# Altium integrated library Atmel Microcontroller 8-Bit megaAVR.IntLib: 324 symbols (part 1 of 10)
Pins are listed as number, name and electrical type; pins without a type are passive.

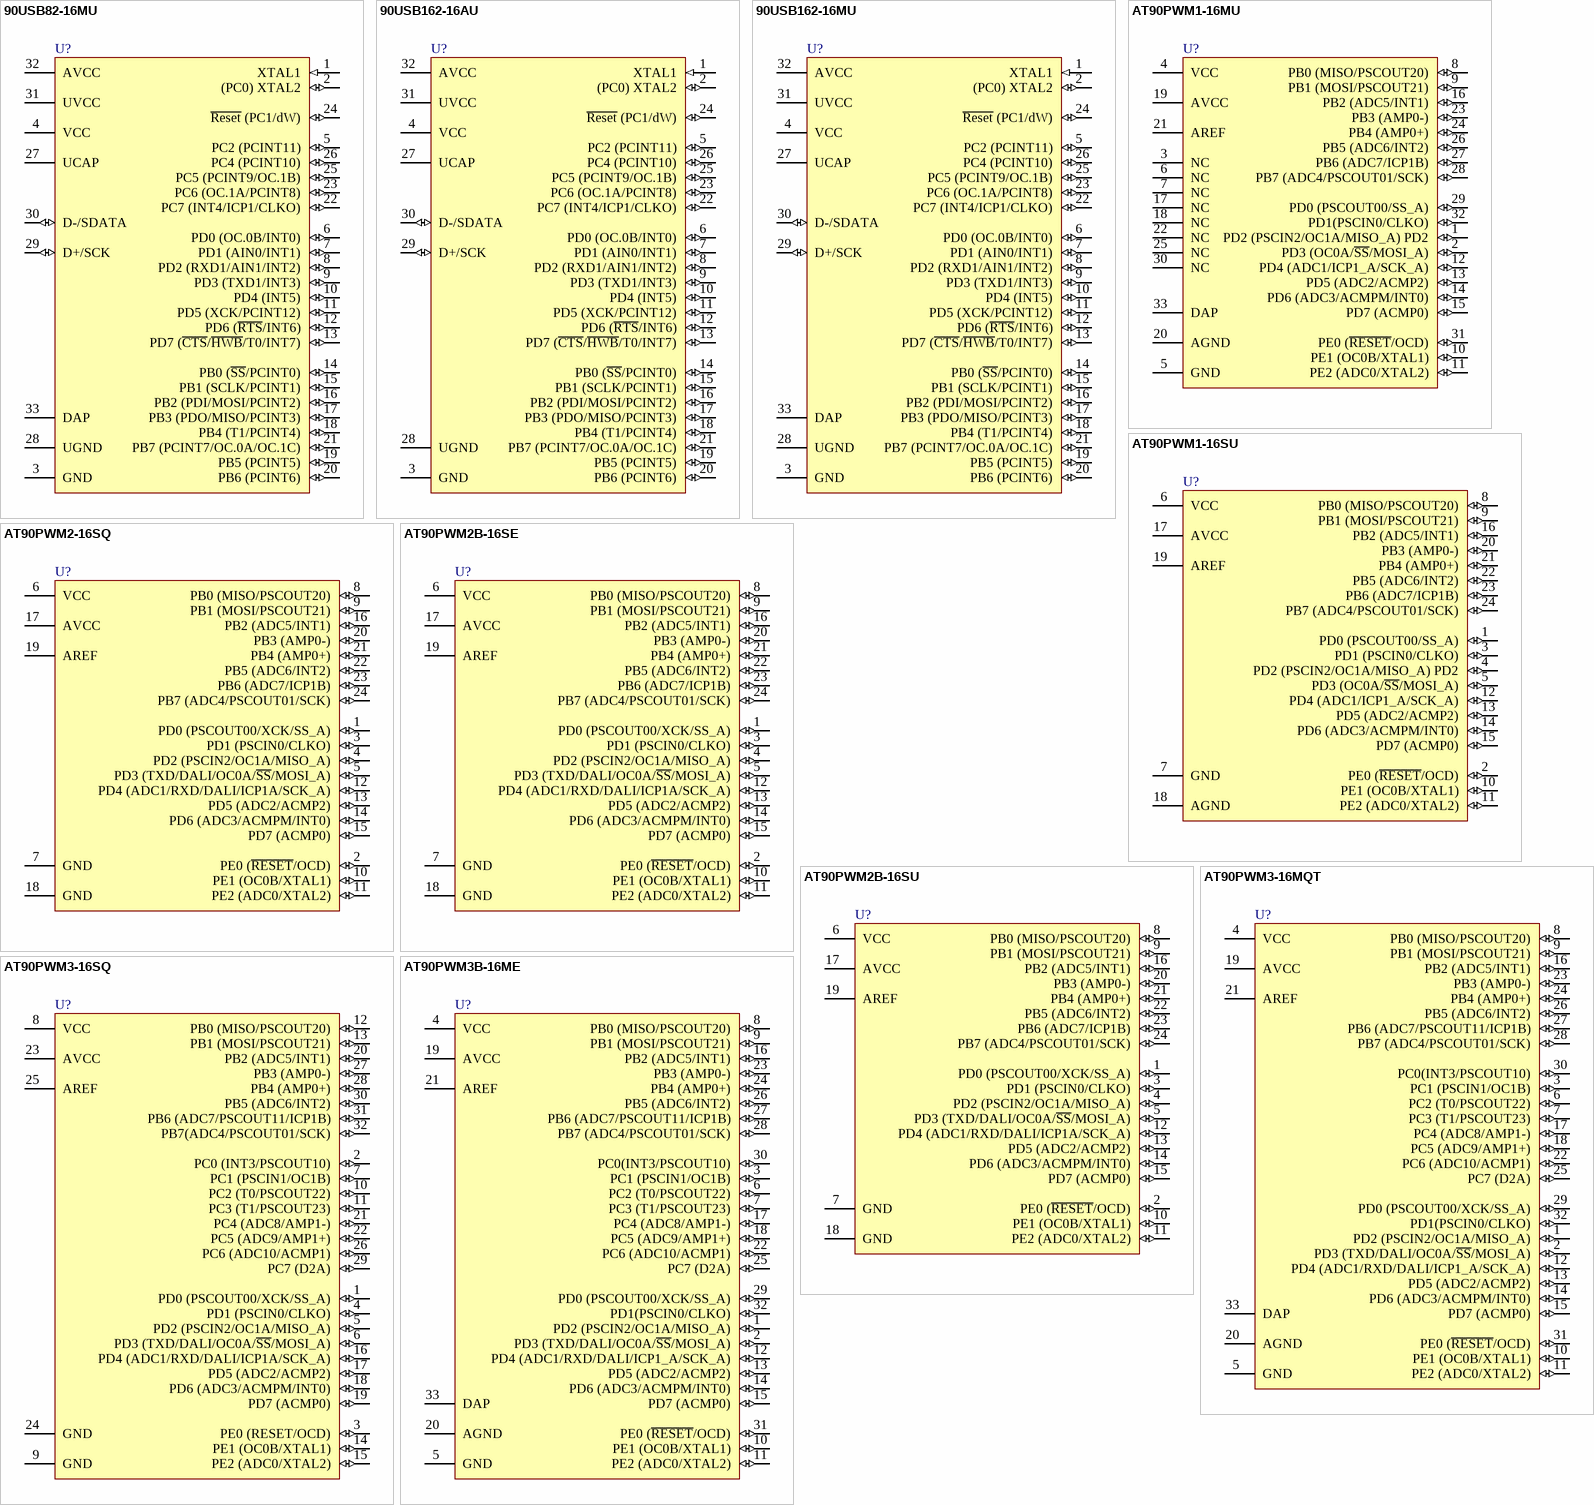
[diagram p0: symbols 90USB82-16MU to AT90PWM3B-16ME]

## 90USB82-16MU
designator U?
8-bit AVR Microcontroller, 2.7-5.5V, 8KB Flash, 512 Bytes EEPROM, 512 Bytes SRAM, USB Controller, 32-pin VQFN, Industrial Grade (-40°C to 85°C)
footprint 32-QFN_N (QFN, 32-Leads, Body 5x5mm, Pitch 0.5mm, IPC Medium Density)
footprint 32-QFN_L (QFN, 32-Leads, Body 5x5mm, Pitch 0.5mm, IPC High Density)
footprint 32-QFN_M (QFN, 32-Leads, Body 5x5mm, Pitch 0.5mm, IPC Low Density)
pins: 1 XTAL1 (in), 2 (PC0) XTAL2 (io), 3 GND (power), 4 VCC (power), 5 PC2 (PCINT11) (io), 6 PD0 (OC.0B/INT0) (io), 7 PD1 (AIN0/INT1) (io), 8 PD2 (RXD1/AIN1/INT2) (io), 9 PD3 (TXD1/INT3) (io), 10 PD4 (INT5) (io), 11 PD5 (XCK/PCINT12) (io), 12 PD6 (~{RTS}/INT6) (io), 13 PD7 (~{CTS}/~{HWB}/T0/INT7) (io), 14 PB0 (~{SS}/PCINT0) (io), 15 PB1 (SCLK/PCINT1) (io), 16 PB2 (PDI/MOSI/PCINT2) (io), 17 PB3 (PDO/MISO/PCINT3) (io), 18 PB4 (T1/PCINT4) (io), 19 PB5 (PCINT5) (io), 20 PB6 (PCINT6) (io), 21 PB7 (PCINT7/OC.0A/OC.1C) (io), 22 PC7 (INT4/ICP1/CLKO) (io), 23 PC6 (OC.1A/PCINT8) (io), 24 ~{Reset} (PC1/dW) (io), 25 PC5 (PCINT9/OC.1B) (io), 26 PC4 (PCINT10) (io), 27 UCAP (power), 28 UGND (power), 29 D+/SCK (io), 30 D-/SDATA (io), 31 UVCC (power), 32 AVCC (power), 33 DAP (power)

## 90USB162-16AU
designator U?
8-bit AVR Microcontroller, 2.7-5.5V, 16KB Flash, 512 Bytes EEPROM, 512 Bytes SRAM, USB Controller, 32-pin TQFP, Industrial Grade (-40°C to 85°C)
footprint 32MA_N (Thin QFP, 32-Leads, Body 7x7mm, Pitch 0.8mm, IPC Medium Density)
footprint 32MA_L (Thin QFP, 32-Leads, Body 7x7mm, Pitch 0.8mm, IPC High Density)
footprint 32MA_M (Thin QFP, 32-Leads, Body 7x7mm, Pitch 0.8mm, IPC Low Density)
pins: 1 XTAL1 (in), 2 (PC0) XTAL2 (io), 3 GND (power), 4 VCC (power), 5 PC2 (PCINT11) (io), 6 PD0 (OC.0B/INT0) (io), 7 PD1 (AIN0/INT1) (io), 8 PD2 (RXD1/AIN1/INT2) (io), 9 PD3 (TXD1/INT3) (io), 10 PD4 (INT5) (io), 11 PD5 (XCK/PCINT12) (io), 12 PD6 (~{RTS}/INT6) (io), 13 PD7 (~{CTS}/~{HWB}/T0/INT7) (io), 14 PB0 (~{SS}/PCINT0) (io), 15 PB1 (SCLK/PCINT1) (io), 16 PB2 (PDI/MOSI/PCINT2) (io), 17 PB3 (PDO/MISO/PCINT3) (io), 18 PB4 (T1/PCINT4) (io), 19 PB5 (PCINT5) (io), 20 PB6 (PCINT6) (io), 21 PB7 (PCINT7/OC.0A/OC.1C) (io), 22 PC7 (INT4/ICP1/CLKO) (io), 23 PC6 (OC.1A/PCINT8) (io), 24 ~{Reset} (PC1/dW) (io), 25 PC5 (PCINT9/OC.1B) (io), 26 PC4 (PCINT10) (io), 27 UCAP (power), 28 UGND (power), 29 D+/SCK (io), 30 D-/SDATA (io), 31 UVCC (power), 32 AVCC (power)

## 90USB162-16MU
designator U?
8-bit AVR Microcontroller, 2.7-5.5V, 16KB Flash, 512 Bytes EEPROM, 512 Bytes SRAM, USB Controller, 32-pin VQFN, Industrial Grade (-40°C to 85°C)
footprint 32-QFN_N (QFN, 32-Leads, Body 5x5mm, Pitch 0.5mm, IPC Medium Density)
footprint 32-QFN_L (QFN, 32-Leads, Body 5x5mm, Pitch 0.5mm, IPC High Density)
footprint 32-QFN_M (QFN, 32-Leads, Body 5x5mm, Pitch 0.5mm, IPC Low Density)
pins: 1 XTAL1 (in), 2 (PC0) XTAL2 (io), 3 GND (power), 4 VCC (power), 5 PC2 (PCINT11) (io), 6 PD0 (OC.0B/INT0) (io), 7 PD1 (AIN0/INT1) (io), 8 PD2 (RXD1/AIN1/INT2) (io), 9 PD3 (TXD1/INT3) (io), 10 PD4 (INT5) (io), 11 PD5 (XCK/PCINT12) (io), 12 PD6 (~{RTS}/INT6) (io), 13 PD7 (~{CTS}/~{HWB}/T0/INT7) (io), 14 PB0 (~{SS}/PCINT0) (io), 15 PB1 (SCLK/PCINT1) (io), 16 PB2 (PDI/MOSI/PCINT2) (io), 17 PB3 (PDO/MISO/PCINT3) (io), 18 PB4 (T1/PCINT4) (io), 19 PB5 (PCINT5) (io), 20 PB6 (PCINT6) (io), 21 PB7 (PCINT7/OC.0A/OC.1C) (io), 22 PC7 (INT4/ICP1/CLKO) (io), 23 PC6 (OC.1A/PCINT8) (io), 24 ~{Reset} (PC1/dW) (io), 25 PC5 (PCINT9/OC.1B) (io), 26 PC4 (PCINT10) (io), 27 UCAP (power), 28 UGND (power), 29 D+/SCK (io), 30 D-/SDATA (io), 31 UVCC (power), 32 AVCC (power), 33 DAP (power)

## AT90PWM1-16MU
designator U?
8-bit AVR Microcontroller, 2.7-5.5V, 8KB Flash, 512 Bytes EEPROM, 512 Bytes SRAM, 32-pin QFN, Extended Grade (-40°C to 105°C), Pb-Free
footprint QFN32_N (QFN, 32-Leads, Body 7x7 mm, Pitch 0.65mm, IPC Medium Density)
footprint QFN32_L (QFN, 32-Leads, Body 7x7 mm, Pitch 0.65mm, IPC High Density)
footprint QFN32_M (QFN, 32-Leads, Body 7x7 mm, Pitch 0.65mm, IPC Low Density)
pins: 1 PD2 (PSCIN2/OC1A/MISO_A) PD2 (io), 2 PD3 (OC0A/~{SS}/MOSI_A) (io), 3 NC, 4 VCC (power), 5 GND (power), 6 NC, 7 NC, 8 PB0 (MISO/PSCOUT20) (io), 9 PB1 (MOSI/PSCOUT21) (io), 10 PE1 (OC0B/XTAL1) (io), 11 PE2 (ADC0/XTAL2) (io), 12 PD4 (ADC1/ICP1_A/SCK_A) (io), 13 PD5 (ADC2/ACMP2) (io), 14 PD6 (ADC3/ACMPM/INT0) (io), 15 PD7 (ACMP0) (io), 16 PB2 (ADC5/INT1) (io), 17 NC, 18 NC, 19 AVCC (power), 20 AGND (power), 21 AREF (power), 22 NC, 23 PB3 (AMP0-) (io), 24 PB4 (AMP0+) (io), 25 NC, 26 PB5 (ADC6/INT2) (io), 27 PB6 (ADC7/ICP1B) (io), 28 PB7 (ADC4/PSCOUT01/SCK) (io), 29 PD0 (PSCOUT00/SS_A) (io), 30 NC, 31 PE0 (~{RESET}/OCD) (io), 32 PD1(PSCIN0/CLKO) (io), 33 DAP (power)

## AT90PWM1-16SU
designator U?
8-bit AVR Microcontroller, 2.7-5.5V, 8KB Flash, 512 Bytes EEPROM, 512 Bytes SRAM, 24-pin SOIC (TD), Extended Grade (-40°C to 105°C), Pb-Free
footprint SO24_N (SOIC, 24-Leads, Body 15.4x7.5mm, Pitch 1.27mm, IPC Medium Density)
footprint SO24_L (SOIC, 24-Leads, Body 15.4x7.5mm, Pitch 1.27mm, IPC High Density)
footprint SO24_M (SOIC, 24-Leads, Body 15.4x7.5mm, Pitch 1.27mm, IPC Low Density)
pins: 1 PD0 (PSCOUT00/SS_A) (io), 2 PE0 (~{RESET}/OCD) (io), 3 PD1 (PSCIN0/CLKO) (io), 4 PD2 (PSCIN2/OC1A/MISO_A) PD2 (io), 5 PD3 (OC0A/~{SS}/MOSI_A) (io), 6 VCC (power), 7 GND (power), 8 PB0 (MISO/PSCOUT20) (io), 9 PB1 (MOSI/PSCOUT21) (io), 10 PE1 (OC0B/XTAL1) (io), 11 PE2 (ADC0/XTAL2) (io), 12 PD4 (ADC1/ICP1_A/SCK_A) (io), 13 PD5 (ADC2/ACMP2) (io), 14 PD6 (ADC3/ACMPM/INT0) (io), 15 PD7 (ACMP0) (io), 16 PB2 (ADC5/INT1) (io), 17 AVCC (power), 18 AGND (power), 19 AREF (power), 20 PB3 (AMP0-) (io), 21 PB4 (AMP0+) (io), 22 PB5 (ADC6/INT2) (io), 23 PB6 (ADC7/ICP1B) (io), 24 PB7 (ADC4/PSCOUT01/SCK) (io)

## AT90PWM2-16SQ
designator U?
8-bit AVR Microcontroller, 8KB Flash, 512 Bytes EEPROM, 512 Bytes SRAM, 24-pin SOP, Extended Grade (-40°C to 105°C)
footprint SO24_N (SOIC, 24-Leads, Body 15.4x7.5mm, Pitch 1.27mm, IPC Medium Density)
footprint SO24_L (SOIC, 24-Leads, Body 15.4x7.5mm, Pitch 1.27mm, IPC High Density)
footprint SO24_M (SOIC, 24-Leads, Body 15.4x7.5mm, Pitch 1.27mm, IPC Low Density)
pins: 1 PD0 (PSCOUT00/XCK/SS_A) (io), 2 PE0 (~{RESET}/OCD) (io), 3 PD1 (PSCIN0/CLKO) (io), 4 PD2 (PSCIN2/OC1A/MISO_A) (io), 5 PD3 (TXD/DALI/OC0A/~{SS}/MOSI_A) (io), 6 VCC (power), 7 GND (power), 8 PB0 (MISO/PSCOUT20) (io), 9 PB1 (MOSI/PSCOUT21) (io), 10 PE1 (OC0B/XTAL1) (io), 11 PE2 (ADC0/XTAL2) (io), 12 PD4 (ADC1/RXD/DALI/ICP1A/SCK_A) (io), 13 PD5 (ADC2/ACMP2) (io), 14 PD6 (ADC3/ACMPM/INT0) (io), 15 PD7 (ACMP0) (io), 16 PB2 (ADC5/INT1) (io), 17 AVCC (power), 18 GND (power), 19 AREF (power), 20 PB3 (AMP0-) (io), 21 PB4 (AMP0+) (io), 22 PB5 (ADC6/INT2) (io), 23 PB6 (ADC7/ICP1B) (io), 24 PB7 (ADC4/PSCOUT01/SCK) (io)

## AT90PWM2B-16SE
designator U?
8-bit AVR Microcontroller, 8KB Flash, 512 Bytes EEPROM, 512 Bytes SRAM, 24-pin SOP, Engineering Sample
footprint SO24_N (SOIC, 24-Leads, Body 15.4x7.5mm, Pitch 1.27mm, IPC Medium Density)
footprint SO24_L (SOIC, 24-Leads, Body 15.4x7.5mm, Pitch 1.27mm, IPC High Density)
footprint SO24_M (SOIC, 24-Leads, Body 15.4x7.5mm, Pitch 1.27mm, IPC Low Density)
pins: 1 PD0 (PSCOUT00/XCK/SS_A) (io), 2 PE0 (~{RESET}/OCD) (io), 3 PD1 (PSCIN0/CLKO) (io), 4 PD2 (PSCIN2/OC1A/MISO_A) (io), 5 PD3 (TXD/DALI/OC0A/~{SS}/MOSI_A) (io), 6 VCC (power), 7 GND (power), 8 PB0 (MISO/PSCOUT20) (io), 9 PB1 (MOSI/PSCOUT21) (io), 10 PE1 (OC0B/XTAL1) (io), 11 PE2 (ADC0/XTAL2) (io), 12 PD4 (ADC1/RXD/DALI/ICP1A/SCK_A) (io), 13 PD5 (ADC2/ACMP2) (io), 14 PD6 (ADC3/ACMPM/INT0) (io), 15 PD7 (ACMP0) (io), 16 PB2 (ADC5/INT1) (io), 17 AVCC (power), 18 GND (power), 19 AREF (power), 20 PB3 (AMP0-) (io), 21 PB4 (AMP0+) (io), 22 PB5 (ADC6/INT2) (io), 23 PB6 (ADC7/ICP1B) (io), 24 PB7 (ADC4/PSCOUT01/SCK) (io)

## AT90PWM2B-16SU
designator U?
8-bit AVR Microcontroller, 8KB Flash, 512 Bytes EEPROM, 512 Bytes SRAM, 24-pin SOP, Extended Grade (-40°C to 105°C)
footprint SO24_N (SOIC, 24-Leads, Body 15.4x7.5mm, Pitch 1.27mm, IPC Medium Density)
footprint SO24_L (SOIC, 24-Leads, Body 15.4x7.5mm, Pitch 1.27mm, IPC High Density)
footprint SO24_M (SOIC, 24-Leads, Body 15.4x7.5mm, Pitch 1.27mm, IPC Low Density)
pins: 1 PD0 (PSCOUT00/XCK/SS_A) (io), 2 PE0 (~{RESET}/OCD) (io), 3 PD1 (PSCIN0/CLKO) (io), 4 PD2 (PSCIN2/OC1A/MISO_A) (io), 5 PD3 (TXD/DALI/OC0A/~{SS}/MOSI_A) (io), 6 VCC (power), 7 GND (power), 8 PB0 (MISO/PSCOUT20) (io), 9 PB1 (MOSI/PSCOUT21) (io), 10 PE1 (OC0B/XTAL1) (io), 11 PE2 (ADC0/XTAL2) (io), 12 PD4 (ADC1/RXD/DALI/ICP1A/SCK_A) (io), 13 PD5 (ADC2/ACMP2) (io), 14 PD6 (ADC3/ACMPM/INT0) (io), 15 PD7 (ACMP0) (io), 16 PB2 (ADC5/INT1) (io), 17 AVCC (power), 18 GND (power), 19 AREF (power), 20 PB3 (AMP0-) (io), 21 PB4 (AMP0+) (io), 22 PB5 (ADC6/INT2) (io), 23 PB6 (ADC7/ICP1B) (io), 24 PB7 (ADC4/PSCOUT01/SCK) (io)

## AT90PWM3-16MQT
designator U?
8-bit AVR Microcontroller, 8KB Flash, 512 Bytes EEPROM, 512 Bytes SRAM, 32-pin QFN, Extended Grade (-40°C to 105°C)
footprint QFN32_N (QFN, 32-Leads, Body 7x7 mm, Pitch 0.65mm, IPC Medium Density)
footprint QFN32_L (QFN, 32-Leads, Body 7x7 mm, Pitch 0.65mm, IPC High Density)
footprint QFN32_M (QFN, 32-Leads, Body 7x7 mm, Pitch 0.65mm, IPC Low Density)
pins: 1 PD2 (PSCIN2/OC1A/MISO_A) (io), 2 PD3 (TXD/DALI/OC0A/~{SS}/MOSI_A) (io), 3 PC1 (PSCIN1/OC1B) (io), 4 VCC (power), 5 GND (power), 6 PC2 (T0/PSCOUT22) (io), 7 PC3 (T1/PSCOUT23) (io), 8 PB0 (MISO/PSCOUT20) (io), 9 PB1 (MOSI/PSCOUT21) (io), 10 PE1 (OC0B/XTAL1) (io), 11 PE2 (ADC0/XTAL2) (io), 12 PD4 (ADC1/RXD/DALI/ICP1_A/SCK_A) (io), 13 PD5 (ADC2/ACMP2) (io), 14 PD6 (ADC3/ACMPM/INT0) (io), 15 PD7 (ACMP0) (io), 16 PB2 (ADC5/INT1) (io), 17 PC4 (ADC8/AMP1-) (io), 18 PC5 (ADC9/AMP1+) (io), 19 AVCC (power), 20 AGND (power), 21 AREF (power), 22 PC6 (ADC10/ACMP1) (io), 23 PB3 (AMP0-) (io), 24 PB4 (AMP0+) (io), 25 PC7 (D2A) (io), 26 PB5 (ADC6/INT2) (io), 27 PB6 (ADC7/PSCOUT11/ICP1B) (io), 28 PB7 (ADC4/PSCOUT01/SCK) (io), 29 PD0 (PSCOUT00/XCK/SS_A) (io), 30 PC0(INT3/PSCOUT10) (io), 31 PE0 (~{RESET}/OCD) (io), 32 PD1(PSCIN0/CLKO) (io), 33 DAP (power)

## AT90PWM3-16SQ
designator U?
8-bit AVR Microcontroller, 8KB Flash, 512 Bytes EEPROM, 512 Bytes SRAM, 32-pin SOP, Extended Grade (-40°C to 105°C)
footprint SO32_N (SOIC, 32-Leads, Body 20.8x7.5mm, Pitch 1.27mm, IPC Medium Density)
footprint SO32_L (SOIC, 32-Leads, Body 20.8x7.5mm, Pitch 1.27mm, IPC High Density)
footprint SO32_M (SOIC, 32-Leads, Body 20.8x7.5mm, Pitch 1.27mm, IPC Low Density)
pins: 1 PD0 (PSCOUT00/XCK/SS_A) (io), 2 PC0 (INT3/PSCOUT10) (io), 3 PE0 (RESET/OCD) (io), 4 PD1 (PSCIN0/CLKO) (io), 5 PD2 (PSCIN2/OC1A/MISO_A) (io), 6 PD3 (TXD/DALI/OC0A/~{SS}/MOSI_A) (io), 7 PC1 (PSCIN1/OC1B) (io), 8 VCC (power), 9 GND (power), 10 PC2 (T0/PSCOUT22) (io), 11 PC3 (T1/PSCOUT23) (io), 12 PB0 (MISO/PSCOUT20) (io), 13 PB1 (MOSI/PSCOUT21) (io), 14 PE1 (OC0B/XTAL1) (io), 15 PE2 (ADC0/XTAL2) (io), 16 PD4 (ADC1/RXD/DALI/ICP1A/SCK_A) (io), 17 PD5 (ADC2/ACMP2) (io), 18 PD6 (ADC3/ACMPM/INT0) (io), 19 PD7 (ACMP0) (io), 20 PB2 (ADC5/INT1) (io), 21 PC4 (ADC8/AMP1-) (io), 22 PC5 (ADC9/AMP1+) (io), 23 AVCC (power), 24 GND (power), 25 AREF (power), 26 PC6 (ADC10/ACMP1) (io), 27 PB3 (AMP0-) (io), 28 PB4 (AMP0+) (io), 29 PC7 (D2A) (io), 30 PB5 (ADC6/INT2) (io), 31 PB6 (ADC7/PSCOUT11/ICP1B) (io), 32 PB7(ADC4/PSCOUT01/SCK) (io)

## AT90PWM3B-16ME
designator U?
8-bit AVR Microcontroller, 8KB Flash, 512 Bytes EEPROM, 512 Bytes SRAM, 32-pin QFN, Engineering Sample
footprint QFN32_N (QFN, 32-Leads, Body 7x7 mm, Pitch 0.65mm, IPC Medium Density)
footprint QFN32_L (QFN, 32-Leads, Body 7x7 mm, Pitch 0.65mm, IPC High Density)
footprint QFN32_M (QFN, 32-Leads, Body 7x7 mm, Pitch 0.65mm, IPC Low Density)
pins: 1 PD2 (PSCIN2/OC1A/MISO_A) (io), 2 PD3 (TXD/DALI/OC0A/~{SS}/MOSI_A) (io), 3 PC1 (PSCIN1/OC1B) (io), 4 VCC (power), 5 GND (power), 6 PC2 (T0/PSCOUT22) (io), 7 PC3 (T1/PSCOUT23) (io), 8 PB0 (MISO/PSCOUT20) (io), 9 PB1 (MOSI/PSCOUT21) (io), 10 PE1 (OC0B/XTAL1) (io), 11 PE2 (ADC0/XTAL2) (io), 12 PD4 (ADC1/RXD/DALI/ICP1_A/SCK_A) (io), 13 PD5 (ADC2/ACMP2) (io), 14 PD6 (ADC3/ACMPM/INT0) (io), 15 PD7 (ACMP0) (io), 16 PB2 (ADC5/INT1) (io), 17 PC4 (ADC8/AMP1-) (io), 18 PC5 (ADC9/AMP1+) (io), 19 AVCC (power), 20 AGND (power), 21 AREF (power), 22 PC6 (ADC10/ACMP1) (io), 23 PB3 (AMP0-) (io), 24 PB4 (AMP0+) (io), 25 PC7 (D2A) (io), 26 PB5 (ADC6/INT2) (io), 27 PB6 (ADC7/PSCOUT11/ICP1B) (io), 28 PB7 (ADC4/PSCOUT01/SCK) (io), 29 PD0 (PSCOUT00/XCK/SS_A) (io), 30 PC0(INT3/PSCOUT10) (io), 31 PE0 (~{RESET}/OCD) (io), 32 PD1(PSCIN0/CLKO) (io), 33 DAP (power)

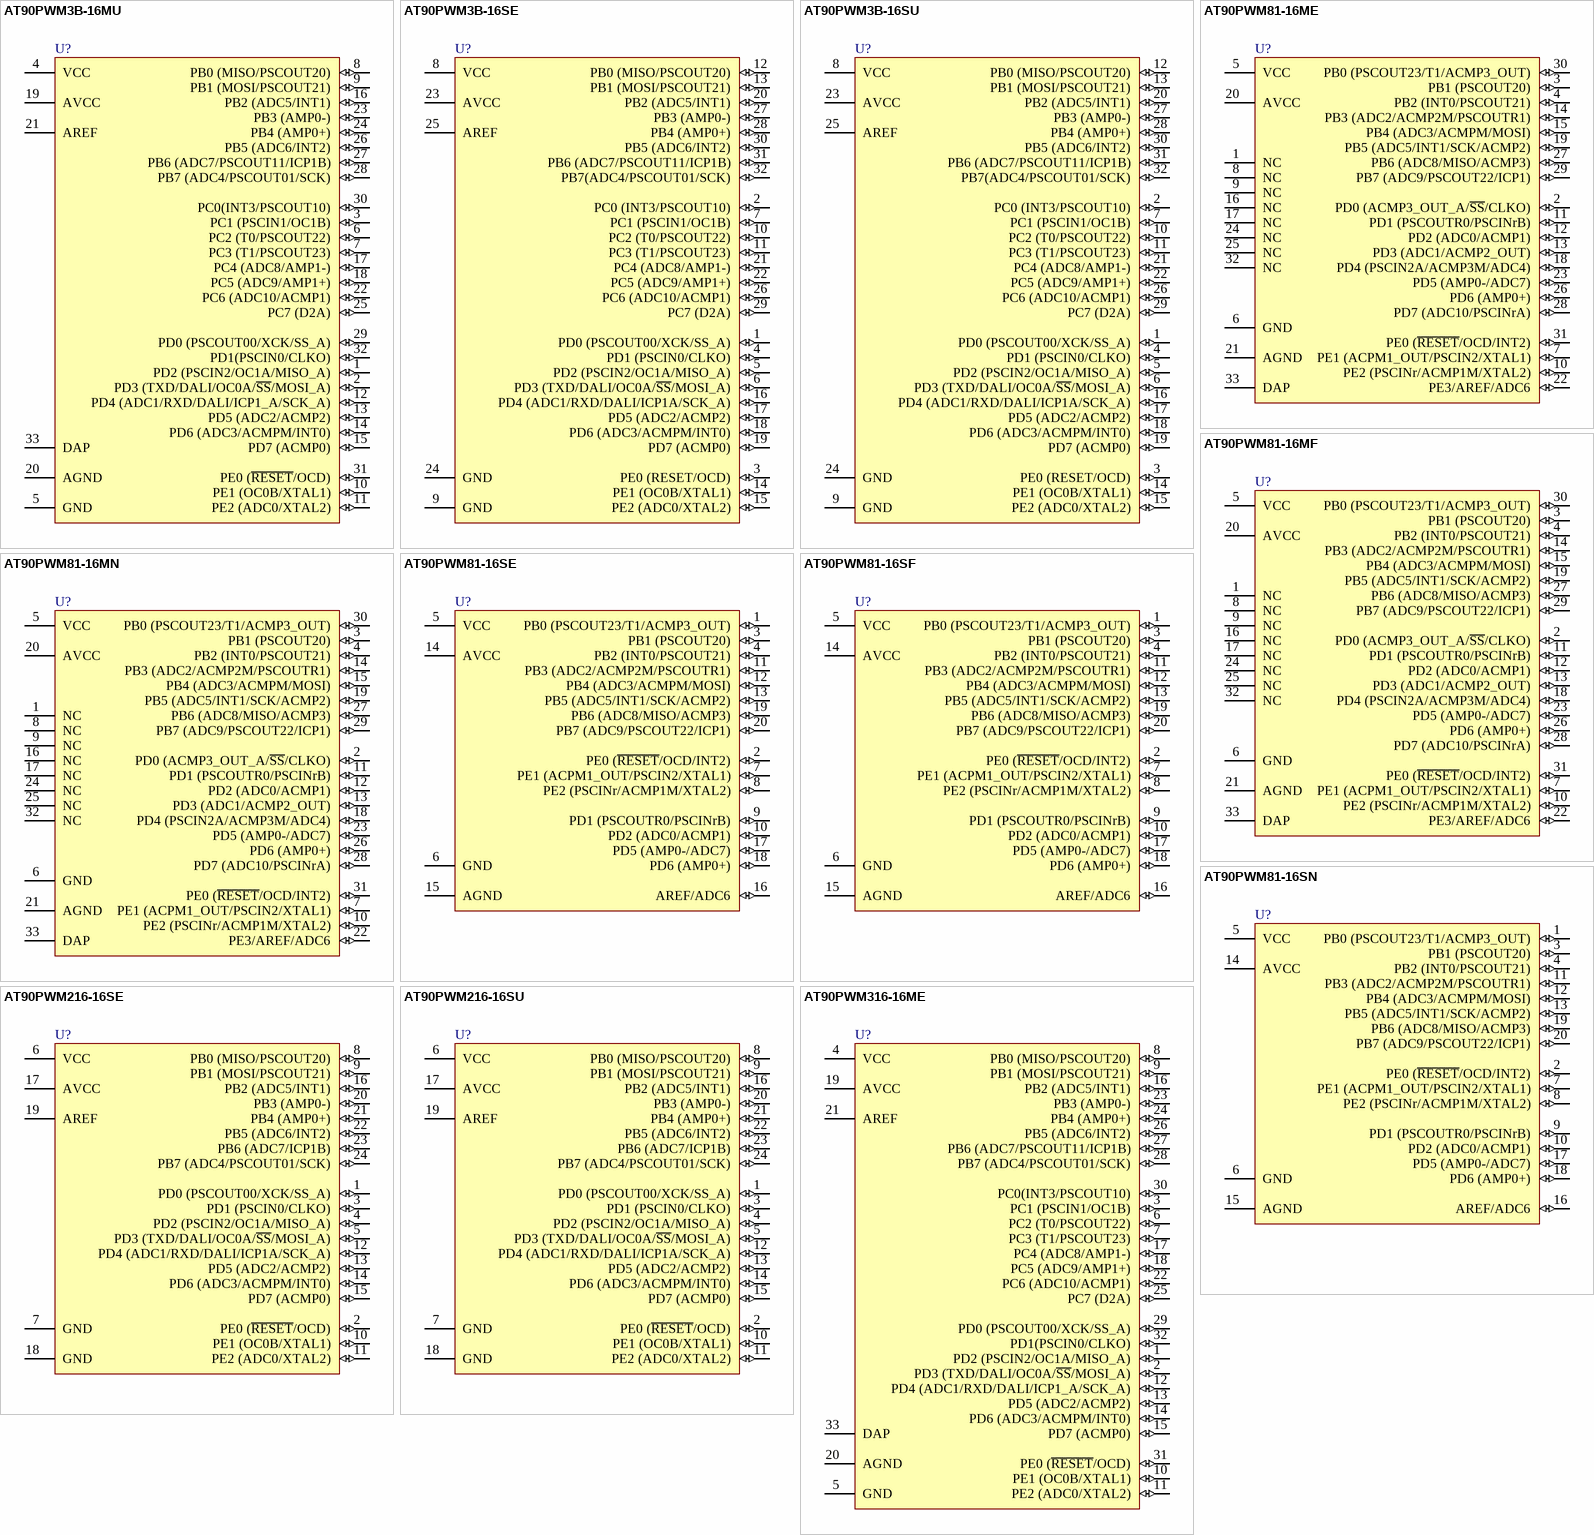
[diagram p1: symbols AT90PWM3B-16MU to AT90PWM316-16ME]

## AT90PWM3B-16MU
designator U?
8-bit AVR Microcontroller, 8KB Flash, 512 Bytes EEPROM, 512 Bytes SRAM, 32-pin QFN, Extended Grade (-40°C to 105°C)
footprint QFN32_N (QFN, 32-Leads, Body 7x7 mm, Pitch 0.65mm, IPC Medium Density)
footprint QFN32_L (QFN, 32-Leads, Body 7x7 mm, Pitch 0.65mm, IPC High Density)
footprint QFN32_M (QFN, 32-Leads, Body 7x7 mm, Pitch 0.65mm, IPC Low Density)
pins: 1 PD2 (PSCIN2/OC1A/MISO_A) (io), 2 PD3 (TXD/DALI/OC0A/~{SS}/MOSI_A) (io), 3 PC1 (PSCIN1/OC1B) (io), 4 VCC (power), 5 GND (power), 6 PC2 (T0/PSCOUT22) (io), 7 PC3 (T1/PSCOUT23) (io), 8 PB0 (MISO/PSCOUT20) (io), 9 PB1 (MOSI/PSCOUT21) (io), 10 PE1 (OC0B/XTAL1) (io), 11 PE2 (ADC0/XTAL2) (io), 12 PD4 (ADC1/RXD/DALI/ICP1_A/SCK_A) (io), 13 PD5 (ADC2/ACMP2) (io), 14 PD6 (ADC3/ACMPM/INT0) (io), 15 PD7 (ACMP0) (io), 16 PB2 (ADC5/INT1) (io), 17 PC4 (ADC8/AMP1-) (io), 18 PC5 (ADC9/AMP1+) (io), 19 AVCC (power), 20 AGND (power), 21 AREF (power), 22 PC6 (ADC10/ACMP1) (io), 23 PB3 (AMP0-) (io), 24 PB4 (AMP0+) (io), 25 PC7 (D2A) (io), 26 PB5 (ADC6/INT2) (io), 27 PB6 (ADC7/PSCOUT11/ICP1B) (io), 28 PB7 (ADC4/PSCOUT01/SCK) (io), 29 PD0 (PSCOUT00/XCK/SS_A) (io), 30 PC0(INT3/PSCOUT10) (io), 31 PE0 (~{RESET}/OCD) (io), 32 PD1(PSCIN0/CLKO) (io), 33 DAP (power)

## AT90PWM3B-16SE
designator U?
8-bit AVR Microcontroller, 8KB Flash, 512 Bytes EEPROM, 512 Bytes SRAM, 32-pin SOP, Engineering Sample
footprint SO32_N (SOIC, 32-Leads, Body 20.8x7.5mm, Pitch 1.27mm, IPC Medium Density)
footprint SO32_L (SOIC, 32-Leads, Body 20.8x7.5mm, Pitch 1.27mm, IPC High Density)
footprint SO32_M (SOIC, 32-Leads, Body 20.8x7.5mm, Pitch 1.27mm, IPC Low Density)
pins: 1 PD0 (PSCOUT00/XCK/SS_A) (io), 2 PC0 (INT3/PSCOUT10) (io), 3 PE0 (RESET/OCD) (io), 4 PD1 (PSCIN0/CLKO) (io), 5 PD2 (PSCIN2/OC1A/MISO_A) (io), 6 PD3 (TXD/DALI/OC0A/~{SS}/MOSI_A) (io), 7 PC1 (PSCIN1/OC1B) (io), 8 VCC (power), 9 GND (power), 10 PC2 (T0/PSCOUT22) (io), 11 PC3 (T1/PSCOUT23) (io), 12 PB0 (MISO/PSCOUT20) (io), 13 PB1 (MOSI/PSCOUT21) (io), 14 PE1 (OC0B/XTAL1) (io), 15 PE2 (ADC0/XTAL2) (io), 16 PD4 (ADC1/RXD/DALI/ICP1A/SCK_A) (io), 17 PD5 (ADC2/ACMP2) (io), 18 PD6 (ADC3/ACMPM/INT0) (io), 19 PD7 (ACMP0) (io), 20 PB2 (ADC5/INT1) (io), 21 PC4 (ADC8/AMP1-) (io), 22 PC5 (ADC9/AMP1+) (io), 23 AVCC (power), 24 GND (power), 25 AREF (power), 26 PC6 (ADC10/ACMP1) (io), 27 PB3 (AMP0-) (io), 28 PB4 (AMP0+) (io), 29 PC7 (D2A) (io), 30 PB5 (ADC6/INT2) (io), 31 PB6 (ADC7/PSCOUT11/ICP1B) (io), 32 PB7(ADC4/PSCOUT01/SCK) (io)

## AT90PWM3B-16SU
designator U?
8-bit AVR Microcontroller, 8KB Flash, 512 Bytes EEPROM, 512 Bytes SRAM, 32-pin SOP, Extended Grade (-40°C to 105°C)
footprint SO32_N (SOIC, 32-Leads, Body 20.8x7.5mm, Pitch 1.27mm, IPC Medium Density)
footprint SO32_L (SOIC, 32-Leads, Body 20.8x7.5mm, Pitch 1.27mm, IPC High Density)
footprint SO32_M (SOIC, 32-Leads, Body 20.8x7.5mm, Pitch 1.27mm, IPC Low Density)
pins: 1 PD0 (PSCOUT00/XCK/SS_A) (io), 2 PC0 (INT3/PSCOUT10) (io), 3 PE0 (RESET/OCD) (io), 4 PD1 (PSCIN0/CLKO) (io), 5 PD2 (PSCIN2/OC1A/MISO_A) (io), 6 PD3 (TXD/DALI/OC0A/~{SS}/MOSI_A) (io), 7 PC1 (PSCIN1/OC1B) (io), 8 VCC (power), 9 GND (power), 10 PC2 (T0/PSCOUT22) (io), 11 PC3 (T1/PSCOUT23) (io), 12 PB0 (MISO/PSCOUT20) (io), 13 PB1 (MOSI/PSCOUT21) (io), 14 PE1 (OC0B/XTAL1) (io), 15 PE2 (ADC0/XTAL2) (io), 16 PD4 (ADC1/RXD/DALI/ICP1A/SCK_A) (io), 17 PD5 (ADC2/ACMP2) (io), 18 PD6 (ADC3/ACMPM/INT0) (io), 19 PD7 (ACMP0) (io), 20 PB2 (ADC5/INT1) (io), 21 PC4 (ADC8/AMP1-) (io), 22 PC5 (ADC9/AMP1+) (io), 23 AVCC (power), 24 GND (power), 25 AREF (power), 26 PC6 (ADC10/ACMP1) (io), 27 PB3 (AMP0-) (io), 28 PB4 (AMP0+) (io), 29 PC7 (D2A) (io), 30 PB5 (ADC6/INT2) (io), 31 PB6 (ADC7/PSCOUT11/ICP1B) (io), 32 PB7(ADC4/PSCOUT01/SCK) (io)

## AT90PWM81-16ME
designator U?
8-bit AVR Microcontroller, 2.7-5.5V, 8KB Flash, 512 Bytes EEPROM, 256 Bytes SRAM, 32-pin QFN, Engineering Sample, Pb-Free
footprint 32-QFN_N (QFN, 32-Leads, Body 5x5mm, Pitch 0.5mm, IPC Medium Density)
footprint 32-QFN_L (QFN, 32-Leads, Body 5x5mm, Pitch 0.5mm, IPC High Density)
footprint 32-QFN_M (QFN, 32-Leads, Body 5x5mm, Pitch 0.5mm, IPC Low Density)
pins: 1 NC, 2 PD0 (ACMP3_OUT_A/~{SS}/CLKO) (io), 3 PB1 (PSCOUT20) (io), 4 PB2 (INT0/PSCOUT21) (io), 5 VCC (power), 6 GND (power), 7 PE1 (ACPM1_OUT/PSCIN2/XTAL1) (io), 8 NC, 9 NC, 10 PE2 (PSCINr/ACMP1M/XTAL2) (io), 11 PD1 (PSCOUTR0/PSCINrB) (io), 12 PD2 (ADC0/ACMP1) (io), 13 PD3 (ADC1/ACMP2_OUT) (io), 14 PB3 (ADC2/ACMP2M/PSCOUTR1) (io), 15 PB4 (ADC3/ACMPM/MOSI) (io), 16 NC, 17 NC, 18 PD4 (PSCIN2A/ACMP3M/ADC4) (io), 19 PB5 (ADC5/INT1/SCK/ACMP2) (io), 20 AVCC (power), 21 AGND (power), 22 PE3/AREF/ADC6 (io), 23 PD5 (AMP0-/ADC7) (io), 24 NC, 25 NC, 26 PD6 (AMP0+) (io), 27 PB6 (ADC8/MISO/ACMP3) (io), 28 PD7 (ADC10/PSCINrA) (io), 29 PB7 (ADC9/PSCOUT22/ICP1) (io), 30 PB0 (PSCOUT23/T1/ACMP3_OUT) (io), 31 PE0 (~{RESET}/OCD/INT2) (io), 32 NC, 33 DAP (power)

## AT90PWM81-16MF
designator U?
8-bit AVR Microcontroller, 2.7-5.5V, 8KB Flash, 512 Bytes EEPROM, 256 Bytes SRAM, 32-pin QFN, Extended Grade (-40°C to 125°C), Pb-Free
footprint 32-QFN_N (QFN, 32-Leads, Body 5x5mm, Pitch 0.5mm, IPC Medium Density)
footprint 32-QFN_L (QFN, 32-Leads, Body 5x5mm, Pitch 0.5mm, IPC High Density)
footprint 32-QFN_M (QFN, 32-Leads, Body 5x5mm, Pitch 0.5mm, IPC Low Density)
pins: 1 NC, 2 PD0 (ACMP3_OUT_A/~{SS}/CLKO) (io), 3 PB1 (PSCOUT20) (io), 4 PB2 (INT0/PSCOUT21) (io), 5 VCC (power), 6 GND (power), 7 PE1 (ACPM1_OUT/PSCIN2/XTAL1) (io), 8 NC, 9 NC, 10 PE2 (PSCINr/ACMP1M/XTAL2) (io), 11 PD1 (PSCOUTR0/PSCINrB) (io), 12 PD2 (ADC0/ACMP1) (io), 13 PD3 (ADC1/ACMP2_OUT) (io), 14 PB3 (ADC2/ACMP2M/PSCOUTR1) (io), 15 PB4 (ADC3/ACMPM/MOSI) (io), 16 NC, 17 NC, 18 PD4 (PSCIN2A/ACMP3M/ADC4) (io), 19 PB5 (ADC5/INT1/SCK/ACMP2) (io), 20 AVCC (power), 21 AGND (power), 22 PE3/AREF/ADC6 (io), 23 PD5 (AMP0-/ADC7) (io), 24 NC, 25 NC, 26 PD6 (AMP0+) (io), 27 PB6 (ADC8/MISO/ACMP3) (io), 28 PD7 (ADC10/PSCINrA) (io), 29 PB7 (ADC9/PSCOUT22/ICP1) (io), 30 PB0 (PSCOUT23/T1/ACMP3_OUT) (io), 31 PE0 (~{RESET}/OCD/INT2) (io), 32 NC, 33 DAP (power)

## AT90PWM81-16MN
designator U?
8-bit AVR Microcontroller, 2.7-5.5V, 8KB Flash, 512 Bytes EEPROM, 256 Bytes SRAM, 32-pin QFN, Extended Grade (-40°C to 105°C), Pb-Free
footprint 32-QFN_N (QFN, 32-Leads, Body 5x5mm, Pitch 0.5mm, IPC Medium Density)
footprint 32-QFN_L (QFN, 32-Leads, Body 5x5mm, Pitch 0.5mm, IPC High Density)
footprint 32-QFN_M (QFN, 32-Leads, Body 5x5mm, Pitch 0.5mm, IPC Low Density)
pins: 1 NC, 2 PD0 (ACMP3_OUT_A/~{SS}/CLKO) (io), 3 PB1 (PSCOUT20) (io), 4 PB2 (INT0/PSCOUT21) (io), 5 VCC (power), 6 GND (power), 7 PE1 (ACPM1_OUT/PSCIN2/XTAL1) (io), 8 NC, 9 NC, 10 PE2 (PSCINr/ACMP1M/XTAL2) (io), 11 PD1 (PSCOUTR0/PSCINrB) (io), 12 PD2 (ADC0/ACMP1) (io), 13 PD3 (ADC1/ACMP2_OUT) (io), 14 PB3 (ADC2/ACMP2M/PSCOUTR1) (io), 15 PB4 (ADC3/ACMPM/MOSI) (io), 16 NC, 17 NC, 18 PD4 (PSCIN2A/ACMP3M/ADC4) (io), 19 PB5 (ADC5/INT1/SCK/ACMP2) (io), 20 AVCC (power), 21 AGND (power), 22 PE3/AREF/ADC6 (io), 23 PD5 (AMP0-/ADC7) (io), 24 NC, 25 NC, 26 PD6 (AMP0+) (io), 27 PB6 (ADC8/MISO/ACMP3) (io), 28 PD7 (ADC10/PSCINrA) (io), 29 PB7 (ADC9/PSCOUT22/ICP1) (io), 30 PB0 (PSCOUT23/T1/ACMP3_OUT) (io), 31 PE0 (~{RESET}/OCD/INT2) (io), 32 NC, 33 DAP (power)

## AT90PWM81-16SE
designator U?
8-bit AVR Microcontroller, 2.7-5.5V, 8KB Flash, 512 Bytes EEPROM, 256 Bytes SRAM, 20-pin SOIC (TG), Engineering Sample, Pb-Free
footprint 20TG_N (SOIC, 20-Leads, Body 12.8x7.5mm, Pitch 1.27mm, IPC Medium Density)
footprint 20TG_L (SOIC, 20-Leads, Body 12.8x7.5mm, Pitch 1.27mm, IPC High Density)
footprint 20TG_M (SOIC, 20-Leads, Body 12.8x7.5mm, Pitch 1.27mm, IPC Low Density)
pins: 1 PB0 (PSCOUT23/T1/ACMP3_OUT) (io), 2 PE0 (~{RESET}/OCD/INT2) (io), 3 PB1 (PSCOUT20) (io), 4 PB2 (INT0/PSCOUT21) (io), 5 VCC (power), 6 GND (power), 7 PE1 (ACPM1_OUT/PSCIN2/XTAL1) (io), 8 PE2 (PSCINr/ACMP1M/XTAL2) (io), 9 PD1 (PSCOUTR0/PSCINrB) (io), 10 PD2 (ADC0/ACMP1) (io), 11 PB3 (ADC2/ACMP2M/PSCOUTR1) (io), 12 PB4 (ADC3/ACMPM/MOSI) (io), 13 PB5 (ADC5/INT1/SCK/ACMP2) (io), 14 AVCC (power), 15 AGND (power), 16 AREF/ADC6 (io), 17 PD5 (AMP0-/ADC7) (io), 18 PD6 (AMP0+) (io), 19 PB6 (ADC8/MISO/ACMP3) (io), 20 PB7 (ADC9/PSCOUT22/ICP1) (io)

## AT90PWM81-16SF
designator U?
8-bit AVR Microcontroller, 2.7-5.5V, 8KB Flash, 512 Bytes EEPROM, 256 Bytes SRAM, 20-pin SOIC (TG), Extended Grade (-40°C to 125°C), Pb-Free
footprint 20TG_N (SOIC, 20-Leads, Body 12.8x7.5mm, Pitch 1.27mm, IPC Medium Density)
footprint 20TG_L (SOIC, 20-Leads, Body 12.8x7.5mm, Pitch 1.27mm, IPC High Density)
footprint 20TG_M (SOIC, 20-Leads, Body 12.8x7.5mm, Pitch 1.27mm, IPC Low Density)
pins: 1 PB0 (PSCOUT23/T1/ACMP3_OUT) (io), 2 PE0 (~{RESET}/OCD/INT2) (io), 3 PB1 (PSCOUT20) (io), 4 PB2 (INT0/PSCOUT21) (io), 5 VCC (power), 6 GND (power), 7 PE1 (ACPM1_OUT/PSCIN2/XTAL1) (io), 8 PE2 (PSCINr/ACMP1M/XTAL2) (io), 9 PD1 (PSCOUTR0/PSCINrB) (io), 10 PD2 (ADC0/ACMP1) (io), 11 PB3 (ADC2/ACMP2M/PSCOUTR1) (io), 12 PB4 (ADC3/ACMPM/MOSI) (io), 13 PB5 (ADC5/INT1/SCK/ACMP2) (io), 14 AVCC (power), 15 AGND (power), 16 AREF/ADC6 (io), 17 PD5 (AMP0-/ADC7) (io), 18 PD6 (AMP0+) (io), 19 PB6 (ADC8/MISO/ACMP3) (io), 20 PB7 (ADC9/PSCOUT22/ICP1) (io)

## AT90PWM81-16SN
designator U?
8-bit AVR Microcontroller, 2.7-5.5V, 8KB Flash, 512 Bytes EEPROM, 256 Bytes SRAM, 20-pin SOIC (TG), Extended Grade (-40°C to 105°C), Pb-Free
footprint 20TG_N (SOIC, 20-Leads, Body 12.8x7.5mm, Pitch 1.27mm, IPC Medium Density)
footprint 20TG_L (SOIC, 20-Leads, Body 12.8x7.5mm, Pitch 1.27mm, IPC High Density)
footprint 20TG_M (SOIC, 20-Leads, Body 12.8x7.5mm, Pitch 1.27mm, IPC Low Density)
pins: 1 PB0 (PSCOUT23/T1/ACMP3_OUT) (io), 2 PE0 (~{RESET}/OCD/INT2) (io), 3 PB1 (PSCOUT20) (io), 4 PB2 (INT0/PSCOUT21) (io), 5 VCC (power), 6 GND (power), 7 PE1 (ACPM1_OUT/PSCIN2/XTAL1) (io), 8 PE2 (PSCINr/ACMP1M/XTAL2) (io), 9 PD1 (PSCOUTR0/PSCINrB) (io), 10 PD2 (ADC0/ACMP1) (io), 11 PB3 (ADC2/ACMP2M/PSCOUTR1) (io), 12 PB4 (ADC3/ACMPM/MOSI) (io), 13 PB5 (ADC5/INT1/SCK/ACMP2) (io), 14 AVCC (power), 15 AGND (power), 16 AREF/ADC6 (io), 17 PD5 (AMP0-/ADC7) (io), 18 PD6 (AMP0+) (io), 19 PB6 (ADC8/MISO/ACMP3) (io), 20 PB7 (ADC9/PSCOUT22/ICP1) (io)

## AT90PWM216-16SE
designator U?
8-bit AVR Microcontroller, 2.7-5.5V, 16KB Flash, 512 Bytes EEPROM, 1KB SRAM, 24-pin SOIC (TD), Engineering Sample, Pb-Free
footprint SO24_N (SOIC, 24-Leads, Body 15.4x7.5mm, Pitch 1.27mm, IPC Medium Density)
footprint SO24_L (SOIC, 24-Leads, Body 15.4x7.5mm, Pitch 1.27mm, IPC High Density)
footprint SO24_M (SOIC, 24-Leads, Body 15.4x7.5mm, Pitch 1.27mm, IPC Low Density)
pins: 1 PD0 (PSCOUT00/XCK/SS_A) (io), 2 PE0 (~{RESET}/OCD) (io), 3 PD1 (PSCIN0/CLKO) (io), 4 PD2 (PSCIN2/OC1A/MISO_A) (io), 5 PD3 (TXD/DALI/OC0A/~{SS}/MOSI_A) (io), 6 VCC (power), 7 GND (power), 8 PB0 (MISO/PSCOUT20) (io), 9 PB1 (MOSI/PSCOUT21) (io), 10 PE1 (OC0B/XTAL1) (io), 11 PE2 (ADC0/XTAL2) (io), 12 PD4 (ADC1/RXD/DALI/ICP1A/SCK_A) (io), 13 PD5 (ADC2/ACMP2) (io), 14 PD6 (ADC3/ACMPM/INT0) (io), 15 PD7 (ACMP0) (io), 16 PB2 (ADC5/INT1) (io), 17 AVCC (power), 18 GND (power), 19 AREF (power), 20 PB3 (AMP0-) (io), 21 PB4 (AMP0+) (io), 22 PB5 (ADC6/INT2) (io), 23 PB6 (ADC7/ICP1B) (io), 24 PB7 (ADC4/PSCOUT01/SCK) (io)

## AT90PWM216-16SU
designator U?
8-bit AVR Microcontroller, 2.7-5.5V, 16KB Flash, 512 Bytes EEPROM, 1KB SRAM, 24-pin SOIC (TD), Extended Grade (-40°C to 105°C), Pb-Free
footprint SO24_N (SOIC, 24-Leads, Body 15.4x7.5mm, Pitch 1.27mm, IPC Medium Density)
footprint SO24_L (SOIC, 24-Leads, Body 15.4x7.5mm, Pitch 1.27mm, IPC High Density)
footprint SO24_M (SOIC, 24-Leads, Body 15.4x7.5mm, Pitch 1.27mm, IPC Low Density)
pins: 1 PD0 (PSCOUT00/XCK/SS_A) (io), 2 PE0 (~{RESET}/OCD) (io), 3 PD1 (PSCIN0/CLKO) (io), 4 PD2 (PSCIN2/OC1A/MISO_A) (io), 5 PD3 (TXD/DALI/OC0A/~{SS}/MOSI_A) (io), 6 VCC (power), 7 GND (power), 8 PB0 (MISO/PSCOUT20) (io), 9 PB1 (MOSI/PSCOUT21) (io), 10 PE1 (OC0B/XTAL1) (io), 11 PE2 (ADC0/XTAL2) (io), 12 PD4 (ADC1/RXD/DALI/ICP1A/SCK_A) (io), 13 PD5 (ADC2/ACMP2) (io), 14 PD6 (ADC3/ACMPM/INT0) (io), 15 PD7 (ACMP0) (io), 16 PB2 (ADC5/INT1) (io), 17 AVCC (power), 18 GND (power), 19 AREF (power), 20 PB3 (AMP0-) (io), 21 PB4 (AMP0+) (io), 22 PB5 (ADC6/INT2) (io), 23 PB6 (ADC7/ICP1B) (io), 24 PB7 (ADC4/PSCOUT01/SCK) (io)

## AT90PWM316-16ME
designator U?
8-bit AVR Microcontroller, 2.7-5.5V, 16KB Flash, 512 Bytes EEPROM, 1KB SRAM, 32-pin QFN, Engineering Sample, Pb-Free
footprint QFN32_N (QFN, 32-Leads, Body 7x7 mm, Pitch 0.65mm, IPC Medium Density)
footprint QFN32_L (QFN, 32-Leads, Body 7x7 mm, Pitch 0.65mm, IPC High Density)
footprint QFN32_M (QFN, 32-Leads, Body 7x7 mm, Pitch 0.65mm, IPC Low Density)
pins: 1 PD2 (PSCIN2/OC1A/MISO_A) (io), 2 PD3 (TXD/DALI/OC0A/~{SS}/MOSI_A) (io), 3 PC1 (PSCIN1/OC1B) (io), 4 VCC (power), 5 GND (power), 6 PC2 (T0/PSCOUT22) (io), 7 PC3 (T1/PSCOUT23) (io), 8 PB0 (MISO/PSCOUT20) (io), 9 PB1 (MOSI/PSCOUT21) (io), 10 PE1 (OC0B/XTAL1) (io), 11 PE2 (ADC0/XTAL2) (io), 12 PD4 (ADC1/RXD/DALI/ICP1_A/SCK_A) (io), 13 PD5 (ADC2/ACMP2) (io), 14 PD6 (ADC3/ACMPM/INT0) (io), 15 PD7 (ACMP0) (io), 16 PB2 (ADC5/INT1) (io), 17 PC4 (ADC8/AMP1-) (io), 18 PC5 (ADC9/AMP1+) (io), 19 AVCC (power), 20 AGND (power), 21 AREF (power), 22 PC6 (ADC10/ACMP1) (io), 23 PB3 (AMP0-) (io), 24 PB4 (AMP0+) (io), 25 PC7 (D2A) (io), 26 PB5 (ADC6/INT2) (io), 27 PB6 (ADC7/PSCOUT11/ICP1B) (io), 28 PB7 (ADC4/PSCOUT01/SCK) (io), 29 PD0 (PSCOUT00/XCK/SS_A) (io), 30 PC0(INT3/PSCOUT10) (io), 31 PE0 (~{RESET}/OCD) (io), 32 PD1(PSCIN0/CLKO) (io), 33 DAP (power)

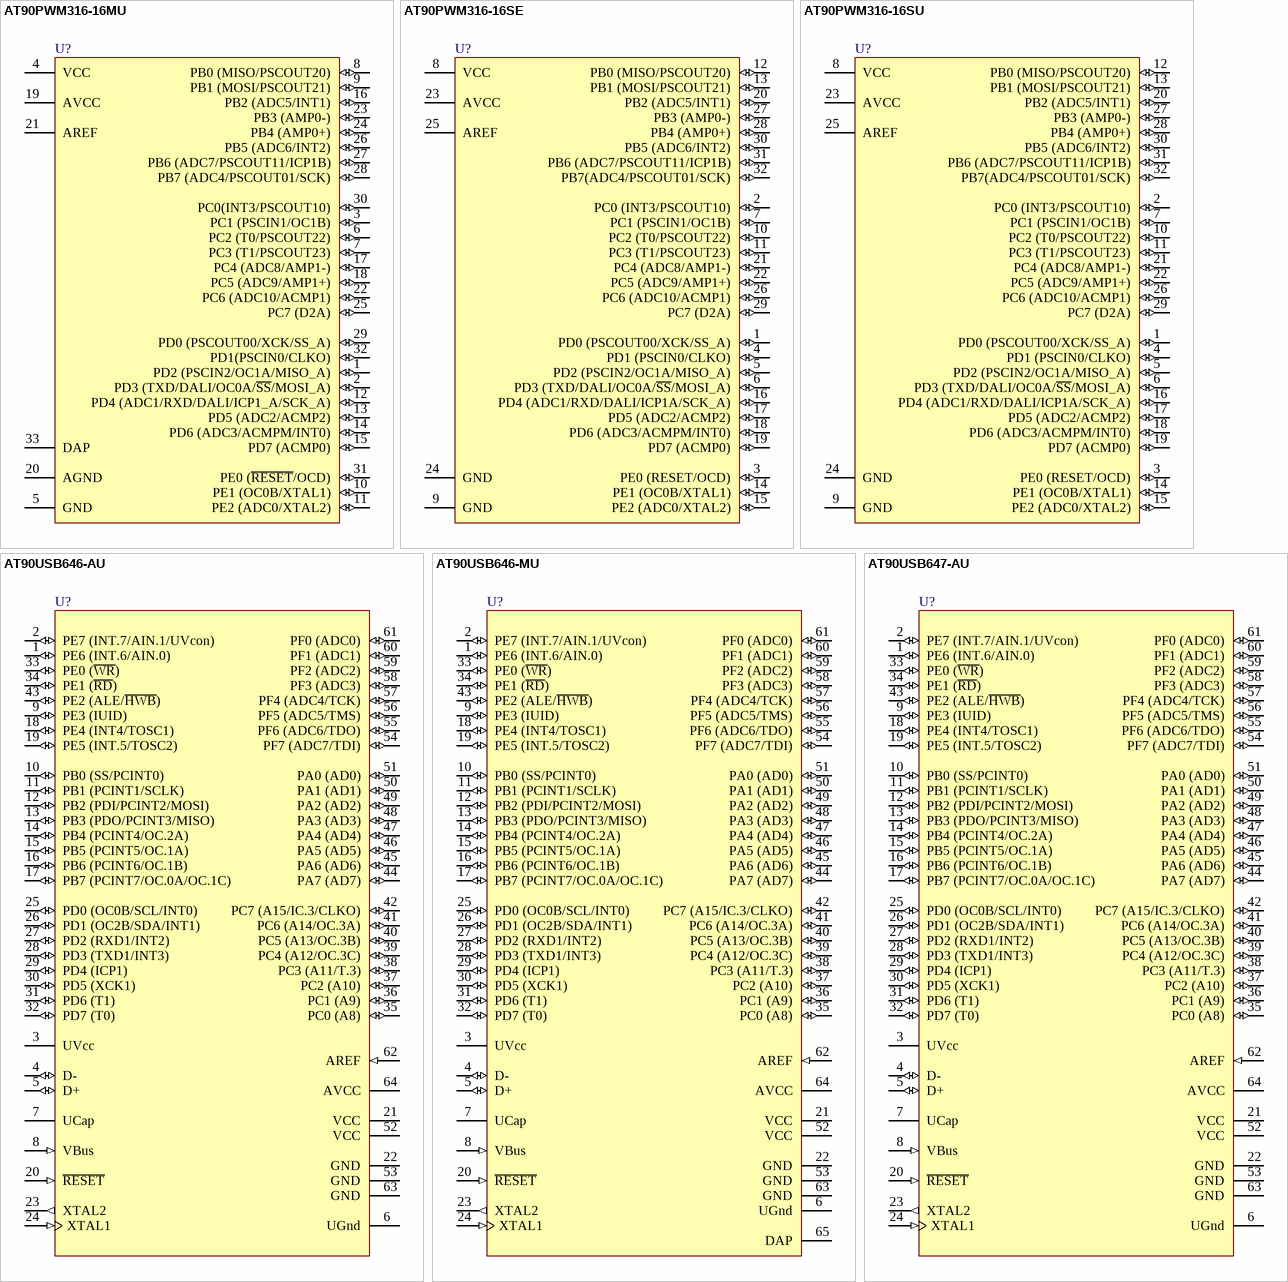
[diagram p2: symbols AT90PWM316-16MU to AT90USB647-AU]

## AT90PWM316-16MU
designator U?
8-bit AVR Microcontroller, 2.7-5.5V, 16KB Flash, 512 Bytes EEPROM, 1KB SRAM, 32-pin QFN, Extended Grade (-40°C to 105°C), Pb-Free
footprint QFN32_N (QFN, 32-Leads, Body 7x7 mm, Pitch 0.65mm, IPC Medium Density)
footprint QFN32_L (QFN, 32-Leads, Body 7x7 mm, Pitch 0.65mm, IPC High Density)
footprint QFN32_M (QFN, 32-Leads, Body 7x7 mm, Pitch 0.65mm, IPC Low Density)
pins: 1 PD2 (PSCIN2/OC1A/MISO_A) (io), 2 PD3 (TXD/DALI/OC0A/~{SS}/MOSI_A) (io), 3 PC1 (PSCIN1/OC1B) (io), 4 VCC (power), 5 GND (power), 6 PC2 (T0/PSCOUT22) (io), 7 PC3 (T1/PSCOUT23) (io), 8 PB0 (MISO/PSCOUT20) (io), 9 PB1 (MOSI/PSCOUT21) (io), 10 PE1 (OC0B/XTAL1) (io), 11 PE2 (ADC0/XTAL2) (io), 12 PD4 (ADC1/RXD/DALI/ICP1_A/SCK_A) (io), 13 PD5 (ADC2/ACMP2) (io), 14 PD6 (ADC3/ACMPM/INT0) (io), 15 PD7 (ACMP0) (io), 16 PB2 (ADC5/INT1) (io), 17 PC4 (ADC8/AMP1-) (io), 18 PC5 (ADC9/AMP1+) (io), 19 AVCC (power), 20 AGND (power), 21 AREF (power), 22 PC6 (ADC10/ACMP1) (io), 23 PB3 (AMP0-) (io), 24 PB4 (AMP0+) (io), 25 PC7 (D2A) (io), 26 PB5 (ADC6/INT2) (io), 27 PB6 (ADC7/PSCOUT11/ICP1B) (io), 28 PB7 (ADC4/PSCOUT01/SCK) (io), 29 PD0 (PSCOUT00/XCK/SS_A) (io), 30 PC0(INT3/PSCOUT10) (io), 31 PE0 (~{RESET}/OCD) (io), 32 PD1(PSCIN0/CLKO) (io), 33 DAP (power)

## AT90PWM316-16SE
designator U?
8-bit AVR Microcontroller, 2.7-5.5V, 16KB Flash, 512 Bytes EEPROM, 1KB SRAM, 32-pin SOIC (T4), Engineering Sample, Pb-Free
footprint SO32_N (SOIC, 32-Leads, Body 20.8x7.5mm, Pitch 1.27mm, IPC Medium Density)
footprint SO32_L (SOIC, 32-Leads, Body 20.8x7.5mm, Pitch 1.27mm, IPC High Density)
footprint SO32_M (SOIC, 32-Leads, Body 20.8x7.5mm, Pitch 1.27mm, IPC Low Density)
pins: 1 PD0 (PSCOUT00/XCK/SS_A) (io), 2 PC0 (INT3/PSCOUT10) (io), 3 PE0 (RESET/OCD) (io), 4 PD1 (PSCIN0/CLKO) (io), 5 PD2 (PSCIN2/OC1A/MISO_A) (io), 6 PD3 (TXD/DALI/OC0A/~{SS}/MOSI_A) (io), 7 PC1 (PSCIN1/OC1B) (io), 8 VCC (power), 9 GND (power), 10 PC2 (T0/PSCOUT22) (io), 11 PC3 (T1/PSCOUT23) (io), 12 PB0 (MISO/PSCOUT20) (io), 13 PB1 (MOSI/PSCOUT21) (io), 14 PE1 (OC0B/XTAL1) (io), 15 PE2 (ADC0/XTAL2) (io), 16 PD4 (ADC1/RXD/DALI/ICP1A/SCK_A) (io), 17 PD5 (ADC2/ACMP2) (io), 18 PD6 (ADC3/ACMPM/INT0) (io), 19 PD7 (ACMP0) (io), 20 PB2 (ADC5/INT1) (io), 21 PC4 (ADC8/AMP1-) (io), 22 PC5 (ADC9/AMP1+) (io), 23 AVCC (power), 24 GND (power), 25 AREF (power), 26 PC6 (ADC10/ACMP1) (io), 27 PB3 (AMP0-) (io), 28 PB4 (AMP0+) (io), 29 PC7 (D2A) (io), 30 PB5 (ADC6/INT2) (io), 31 PB6 (ADC7/PSCOUT11/ICP1B) (io), 32 PB7(ADC4/PSCOUT01/SCK) (io)

## AT90PWM316-16SU
designator U?
8-bit AVR Microcontroller, 2.7-5.5V, 16KB Flash, 512 Bytes EEPROM, 1KB SRAM, 32-pin SOIC (T4), Extended Grade (-40°C to 105°C), Pb-Free
footprint SO32_N (SOIC, 32-Leads, Body 20.8x7.5mm, Pitch 1.27mm, IPC Medium Density)
footprint SO32_L (SOIC, 32-Leads, Body 20.8x7.5mm, Pitch 1.27mm, IPC High Density)
footprint SO32_M (SOIC, 32-Leads, Body 20.8x7.5mm, Pitch 1.27mm, IPC Low Density)
pins: 1 PD0 (PSCOUT00/XCK/SS_A) (io), 2 PC0 (INT3/PSCOUT10) (io), 3 PE0 (RESET/OCD) (io), 4 PD1 (PSCIN0/CLKO) (io), 5 PD2 (PSCIN2/OC1A/MISO_A) (io), 6 PD3 (TXD/DALI/OC0A/~{SS}/MOSI_A) (io), 7 PC1 (PSCIN1/OC1B) (io), 8 VCC (power), 9 GND (power), 10 PC2 (T0/PSCOUT22) (io), 11 PC3 (T1/PSCOUT23) (io), 12 PB0 (MISO/PSCOUT20) (io), 13 PB1 (MOSI/PSCOUT21) (io), 14 PE1 (OC0B/XTAL1) (io), 15 PE2 (ADC0/XTAL2) (io), 16 PD4 (ADC1/RXD/DALI/ICP1A/SCK_A) (io), 17 PD5 (ADC2/ACMP2) (io), 18 PD6 (ADC3/ACMPM/INT0) (io), 19 PD7 (ACMP0) (io), 20 PB2 (ADC5/INT1) (io), 21 PC4 (ADC8/AMP1-) (io), 22 PC5 (ADC9/AMP1+) (io), 23 AVCC (power), 24 GND (power), 25 AREF (power), 26 PC6 (ADC10/ACMP1) (io), 27 PB3 (AMP0-) (io), 28 PB4 (AMP0+) (io), 29 PC7 (D2A) (io), 30 PB5 (ADC6/INT2) (io), 31 PB6 (ADC7/PSCOUT11/ICP1B) (io), 32 PB7(ADC4/PSCOUT01/SCK) (io)

## AT90USB646-AU
designator U?
8-bit AVR Microcontroller, 2.7-5.5V, 64KB Flash, 2KB EEPROM, 4KB SRAM, USB Controller, 64-pin TQFP, Industrial Grade (-40°C to 85°C)
footprint 64MD_N (Thin QFP, 64-Leads, Body 14x14mm, Pitch 0.8mm, IPC Medium Density)
footprint 64MD_L (Thin QFP, 64-Leads, Body 14x14mm, Pitch 0.8mm, IPC High Density)
footprint 64MD_M (Thin QFP, 64-Leads, Body 14x14mm, Pitch 0.8mm, IPC Low Density)
pins: 1 PE6 (INT.6/AIN.0) (io), 2 PE7 (INT.7/AIN.1/UVcon) (io), 3 UVcc (power), 4 D- (io), 5 D+ (io), 6 UGnd (power), 7 UCap (power), 8 VBus (in), 9 PE3 (IUID) (io), 10 PB0 (SS/PCINT0) (io), 11 PB1 (PCINT1/SCLK) (io), 12 PB2 (PDI/PCINT2/MOSI) (io), 13 PB3 (PDO/PCINT3/MISO) (io), 14 PB4 (PCINT4/OC.2A) (io), 15 PB5 (PCINT5/OC.1A) (io), 16 PB6 (PCINT6/OC.1B) (io), 17 PB7 (PCINT7/OC.0A/OC.1C) (io), 18 PE4 (INT4/TOSC1) (io), 19 PE5 (INT.5/TOSC2) (io), 20 ~{RESET} (in), 21 VCC (power), 22 GND (power), 23 XTAL2 (out), 24 XTAL1 (in), 25 PD0 (OC0B/SCL/INT0) (io), 26 PD1 (OC2B/SDA/INT1) (io), 27 PD2 (RXD1/INT2) (io), 28 PD3 (TXD1/INT3) (io), 29 PD4 (ICP1) (io), 30 PD5 (XCK1) (io), 31 PD6 (T1) (io), 32 PD7 (T0) (io), 33 PE0 (~{WR}) (io), 34 PE1 (~{RD}) (io), 35 PC0 (A8) (io), 36 PC1 (A9) (io), 37 PC2 (A10) (io), 38 PC3 (A11/T.3) (io), 39 PC4 (A12/OC.3C) (io), 40 PC5 (A13/OC.3B) (io), 41 PC6 (A14/OC.3A) (io), 42 PC7 (A15/IC.3/CLKO) (io), 43 PE2 (ALE/~{HWB}) (io), 44 PA7 (AD7) (io), 45 PA6 (AD6) (io), 46 PA5 (AD5) (io), 47 PA4 (AD4) (io), 48 PA3 (AD3) (io), 49 PA2 (AD2) (io), 50 PA1 (AD1) (io), 51 PA0 (AD0) (io), 52 VCC (power), 53 GND (power), 54 PF7 (ADC7/TDI) (io), 55 PF6 (ADC6/TDO) (io), 56 PF5 (ADC5/TMS) (io), 57 PF4 (ADC4/TCK) (io), 58 PF3 (ADC3) (io), 59 PF2 (ADC2) (io), 60 PF1 (ADC1) (io), 61 PF0 (ADC0) (io), 62 AREF (in), 63 GND (power), 64 AVCC (power)

## AT90USB646-MU
designator U?
8-bit AVR Microcontroller, 2.7-5.5V, 64KB Flash, 2KB EEPROM, 4KB SRAM, USB Controller, 64-pin VQFN, Industrial Grade (-40°C to 85°C)
footprint 64PS_N (QFN, 64-Leads, Body 9x9mm, Pitch 0.5mm, IPC Medium Density)
footprint 64PS_L (QFN, 64-Leads, Body 9x9mm, Pitch 0.5mm, IPC High Density)
footprint 64PS_M (QFN, 64-Leads, Body 9x9mm, Pitch 0.5mm, IPC Low Density)
pins: 1 PE6 (INT.6/AIN.0) (io), 2 PE7 (INT.7/AIN.1/UVcon) (io), 3 UVcc (power), 4 D- (io), 5 D+ (io), 6 UGnd (power), 7 UCap (power), 8 VBus (in), 9 PE3 (IUID) (io), 10 PB0 (SS/PCINT0) (io), 11 PB1 (PCINT1/SCLK) (io), 12 PB2 (PDI/PCINT2/MOSI) (io), 13 PB3 (PDO/PCINT3/MISO) (io), 14 PB4 (PCINT4/OC.2A) (io), 15 PB5 (PCINT5/OC.1A) (io), 16 PB6 (PCINT6/OC.1B) (io), 17 PB7 (PCINT7/OC.0A/OC.1C) (io), 18 PE4 (INT4/TOSC1) (io), 19 PE5 (INT.5/TOSC2) (io), 20 ~{RESET} (in), 21 VCC (power), 22 GND (power), 23 XTAL2 (out), 24 XTAL1 (in), 25 PD0 (OC0B/SCL/INT0) (io), 26 PD1 (OC2B/SDA/INT1) (io), 27 PD2 (RXD1/INT2) (io), 28 PD3 (TXD1/INT3) (io), 29 PD4 (ICP1) (io), 30 PD5 (XCK1) (io), 31 PD6 (T1) (io), 32 PD7 (T0) (io), 33 PE0 (~{WR}) (io), 34 PE1 (~{RD}) (io), 35 PC0 (A8) (io), 36 PC1 (A9) (io), 37 PC2 (A10) (io), 38 PC3 (A11/T.3) (io), 39 PC4 (A12/OC.3C) (io), 40 PC5 (A13/OC.3B) (io), 41 PC6 (A14/OC.3A) (io), 42 PC7 (A15/IC.3/CLKO) (io), 43 PE2 (ALE/~{HWB}) (io), 44 PA7 (AD7) (io), 45 PA6 (AD6) (io), 46 PA5 (AD5) (io), 47 PA4 (AD4) (io), 48 PA3 (AD3) (io), 49 PA2 (AD2) (io), 50 PA1 (AD1) (io), 51 PA0 (AD0) (io), 52 VCC (power), 53 GND (power), 54 PF7 (ADC7/TDI) (io), 55 PF6 (ADC6/TDO) (io), 56 PF5 (ADC5/TMS) (io), 57 PF4 (ADC4/TCK) (io), 58 PF3 (ADC3) (io), 59 PF2 (ADC2) (io), 60 PF1 (ADC1) (io), 61 PF0 (ADC0) (io), 62 AREF (in), 63 GND (power), 64 AVCC (power), 65 DAP (power)

## AT90USB647-AU
designator U?
8-bit AVR Microcontroller, 2.7-5.5V, 64KB Flash, 2KB EEPROM, 4KB SRAM, USB OTG Host, 64-pin TQFP, Industrial Grade (-40°C to 85°C)
footprint 64MD_N (Thin QFP, 64-Leads, Body 14x14mm, Pitch 0.8mm, IPC Medium Density)
footprint 64MD_L (Thin QFP, 64-Leads, Body 14x14mm, Pitch 0.8mm, IPC High Density)
footprint 64MD_M (Thin QFP, 64-Leads, Body 14x14mm, Pitch 0.8mm, IPC Low Density)
pins: 1 PE6 (INT.6/AIN.0) (io), 2 PE7 (INT.7/AIN.1/UVcon) (io), 3 UVcc (power), 4 D- (io), 5 D+ (io), 6 UGnd (power), 7 UCap (power), 8 VBus (in), 9 PE3 (IUID) (io), 10 PB0 (SS/PCINT0) (io), 11 PB1 (PCINT1/SCLK) (io), 12 PB2 (PDI/PCINT2/MOSI) (io), 13 PB3 (PDO/PCINT3/MISO) (io), 14 PB4 (PCINT4/OC.2A) (io), 15 PB5 (PCINT5/OC.1A) (io), 16 PB6 (PCINT6/OC.1B) (io), 17 PB7 (PCINT7/OC.0A/OC.1C) (io), 18 PE4 (INT4/TOSC1) (io), 19 PE5 (INT.5/TOSC2) (io), 20 ~{RESET} (in), 21 VCC (power), 22 GND (power), 23 XTAL2 (out), 24 XTAL1 (in), 25 PD0 (OC0B/SCL/INT0) (io), 26 PD1 (OC2B/SDA/INT1) (io), 27 PD2 (RXD1/INT2) (io), 28 PD3 (TXD1/INT3) (io), 29 PD4 (ICP1) (io), 30 PD5 (XCK1) (io), 31 PD6 (T1) (io), 32 PD7 (T0) (io), 33 PE0 (~{WR}) (io), 34 PE1 (~{RD}) (io), 35 PC0 (A8) (io), 36 PC1 (A9) (io), 37 PC2 (A10) (io), 38 PC3 (A11/T.3) (io), 39 PC4 (A12/OC.3C) (io), 40 PC5 (A13/OC.3B) (io), 41 PC6 (A14/OC.3A) (io), 42 PC7 (A15/IC.3/CLKO) (io), 43 PE2 (ALE/~{HWB}) (io), 44 PA7 (AD7) (io), 45 PA6 (AD6) (io), 46 PA5 (AD5) (io), 47 PA4 (AD4) (io), 48 PA3 (AD3) (io), 49 PA2 (AD2) (io), 50 PA1 (AD1) (io), 51 PA0 (AD0) (io), 52 VCC (power), 53 GND (power), 54 PF7 (ADC7/TDI) (io), 55 PF6 (ADC6/TDO) (io), 56 PF5 (ADC5/TMS) (io), 57 PF4 (ADC4/TCK) (io), 58 PF3 (ADC3) (io), 59 PF2 (ADC2) (io), 60 PF1 (ADC1) (io), 61 PF0 (ADC0) (io), 62 AREF (in), 63 GND (power), 64 AVCC (power)

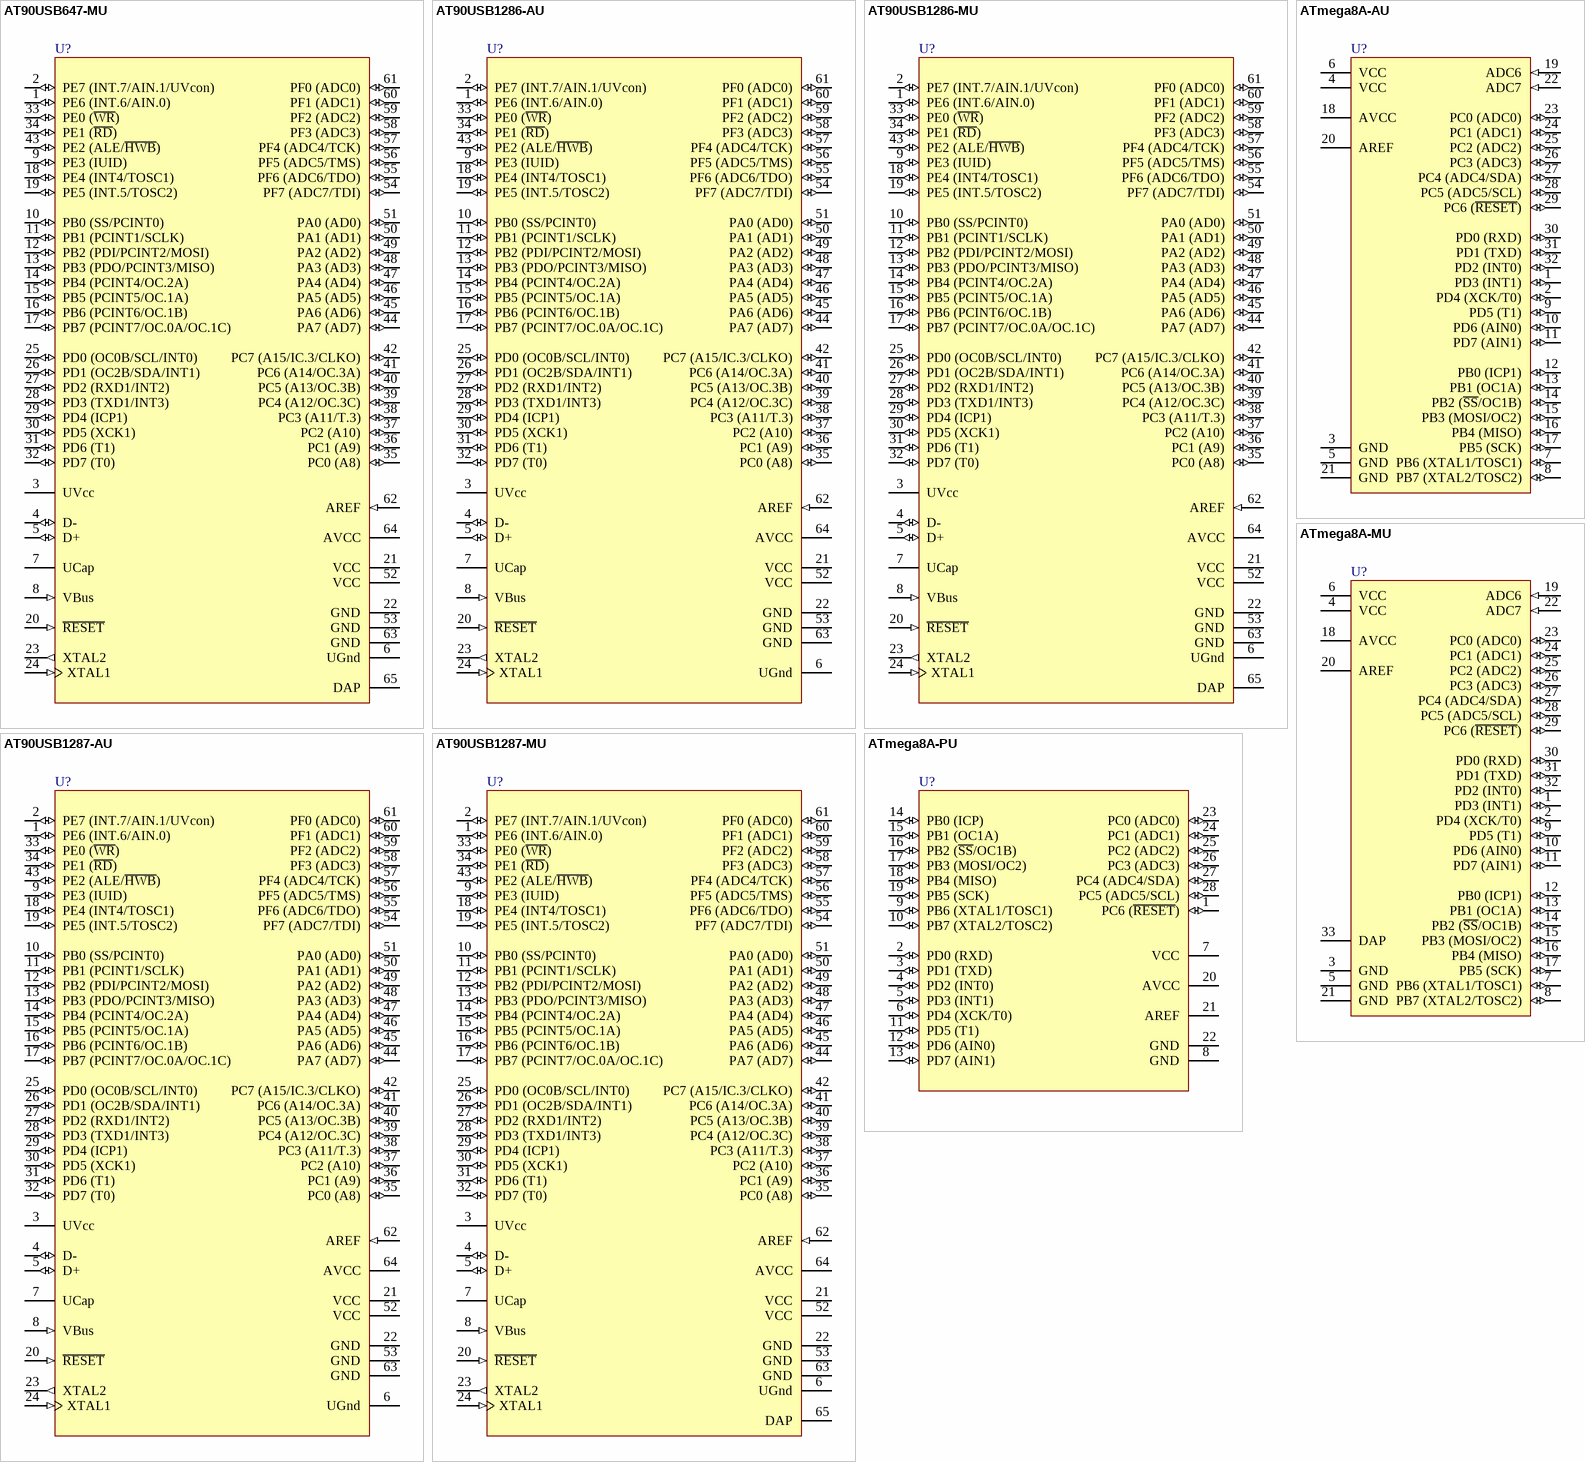
[diagram p3: symbols AT90USB647-MU to ATmega8A-PU]

## AT90USB647-MU
designator U?
8-bit AVR Microcontroller, 2.7-5.5V, 64KB Flash, 2KB EEPROM, 4KB SRAM, USB OTG Host, 64-pin VQFN, Industrial Grade (-40°C to 85°C)
footprint 64PS_N (QFN, 64-Leads, Body 9x9mm, Pitch 0.5mm, IPC Medium Density)
footprint 64PS_L (QFN, 64-Leads, Body 9x9mm, Pitch 0.5mm, IPC High Density)
footprint 64PS_M (QFN, 64-Leads, Body 9x9mm, Pitch 0.5mm, IPC Low Density)
pins: 1 PE6 (INT.6/AIN.0) (io), 2 PE7 (INT.7/AIN.1/UVcon) (io), 3 UVcc (power), 4 D- (io), 5 D+ (io), 6 UGnd (power), 7 UCap (power), 8 VBus (in), 9 PE3 (IUID) (io), 10 PB0 (SS/PCINT0) (io), 11 PB1 (PCINT1/SCLK) (io), 12 PB2 (PDI/PCINT2/MOSI) (io), 13 PB3 (PDO/PCINT3/MISO) (io), 14 PB4 (PCINT4/OC.2A) (io), 15 PB5 (PCINT5/OC.1A) (io), 16 PB6 (PCINT6/OC.1B) (io), 17 PB7 (PCINT7/OC.0A/OC.1C) (io), 18 PE4 (INT4/TOSC1) (io), 19 PE5 (INT.5/TOSC2) (io), 20 ~{RESET} (in), 21 VCC (power), 22 GND (power), 23 XTAL2 (out), 24 XTAL1 (in), 25 PD0 (OC0B/SCL/INT0) (io), 26 PD1 (OC2B/SDA/INT1) (io), 27 PD2 (RXD1/INT2) (io), 28 PD3 (TXD1/INT3) (io), 29 PD4 (ICP1) (io), 30 PD5 (XCK1) (io), 31 PD6 (T1) (io), 32 PD7 (T0) (io), 33 PE0 (~{WR}) (io), 34 PE1 (~{RD}) (io), 35 PC0 (A8) (io), 36 PC1 (A9) (io), 37 PC2 (A10) (io), 38 PC3 (A11/T.3) (io), 39 PC4 (A12/OC.3C) (io), 40 PC5 (A13/OC.3B) (io), 41 PC6 (A14/OC.3A) (io), 42 PC7 (A15/IC.3/CLKO) (io), 43 PE2 (ALE/~{HWB}) (io), 44 PA7 (AD7) (io), 45 PA6 (AD6) (io), 46 PA5 (AD5) (io), 47 PA4 (AD4) (io), 48 PA3 (AD3) (io), 49 PA2 (AD2) (io), 50 PA1 (AD1) (io), 51 PA0 (AD0) (io), 52 VCC (power), 53 GND (power), 54 PF7 (ADC7/TDI) (io), 55 PF6 (ADC6/TDO) (io), 56 PF5 (ADC5/TMS) (io), 57 PF4 (ADC4/TCK) (io), 58 PF3 (ADC3) (io), 59 PF2 (ADC2) (io), 60 PF1 (ADC1) (io), 61 PF0 (ADC0) (io), 62 AREF (in), 63 GND (power), 64 AVCC (power), 65 DAP (power)

## AT90USB1286-AU
designator U?
8-bit AVR Microcontroller, 2.7-5.5V, 128KB Flash, 4KB EEPROM, 8KB SRAM, USB Controller, 64-pin TQFP, Industrial Grade (-40°C to 85°C)
footprint 64MD_N (Thin QFP, 64-Leads, Body 14x14mm, Pitch 0.8mm, IPC Medium Density)
footprint 64MD_L (Thin QFP, 64-Leads, Body 14x14mm, Pitch 0.8mm, IPC High Density)
footprint 64MD_M (Thin QFP, 64-Leads, Body 14x14mm, Pitch 0.8mm, IPC Low Density)
pins: 1 PE6 (INT.6/AIN.0) (io), 2 PE7 (INT.7/AIN.1/UVcon) (io), 3 UVcc (power), 4 D- (io), 5 D+ (io), 6 UGnd (power), 7 UCap (power), 8 VBus (in), 9 PE3 (IUID) (io), 10 PB0 (SS/PCINT0) (io), 11 PB1 (PCINT1/SCLK) (io), 12 PB2 (PDI/PCINT2/MOSI) (io), 13 PB3 (PDO/PCINT3/MISO) (io), 14 PB4 (PCINT4/OC.2A) (io), 15 PB5 (PCINT5/OC.1A) (io), 16 PB6 (PCINT6/OC.1B) (io), 17 PB7 (PCINT7/OC.0A/OC.1C) (io), 18 PE4 (INT4/TOSC1) (io), 19 PE5 (INT.5/TOSC2) (io), 20 ~{RESET} (in), 21 VCC (power), 22 GND (power), 23 XTAL2 (out), 24 XTAL1 (in), 25 PD0 (OC0B/SCL/INT0) (io), 26 PD1 (OC2B/SDA/INT1) (io), 27 PD2 (RXD1/INT2) (io), 28 PD3 (TXD1/INT3) (io), 29 PD4 (ICP1) (io), 30 PD5 (XCK1) (io), 31 PD6 (T1) (io), 32 PD7 (T0) (io), 33 PE0 (~{WR}) (io), 34 PE1 (~{RD}) (io), 35 PC0 (A8) (io), 36 PC1 (A9) (io), 37 PC2 (A10) (io), 38 PC3 (A11/T.3) (io), 39 PC4 (A12/OC.3C) (io), 40 PC5 (A13/OC.3B) (io), 41 PC6 (A14/OC.3A) (io), 42 PC7 (A15/IC.3/CLKO) (io), 43 PE2 (ALE/~{HWB}) (io), 44 PA7 (AD7) (io), 45 PA6 (AD6) (io), 46 PA5 (AD5) (io), 47 PA4 (AD4) (io), 48 PA3 (AD3) (io), 49 PA2 (AD2) (io), 50 PA1 (AD1) (io), 51 PA0 (AD0) (io), 52 VCC (power), 53 GND (power), 54 PF7 (ADC7/TDI) (io), 55 PF6 (ADC6/TDO) (io), 56 PF5 (ADC5/TMS) (io), 57 PF4 (ADC4/TCK) (io), 58 PF3 (ADC3) (io), 59 PF2 (ADC2) (io), 60 PF1 (ADC1) (io), 61 PF0 (ADC0) (io), 62 AREF (in), 63 GND (power), 64 AVCC (power)

## AT90USB1286-MU
designator U?
8-bit AVR Microcontroller, 2.7-5.5V, 128KB Flash, 4KB EEPROM, 8KB SRAM, USB Controller, 64-pin VQFN, Industrial Grade (-40°C to 85°C)
footprint 64PS_N (QFN, 64-Leads, Body 9x9mm, Pitch 0.5mm, IPC Medium Density)
footprint 64PS_L (QFN, 64-Leads, Body 9x9mm, Pitch 0.5mm, IPC High Density)
footprint 64PS_M (QFN, 64-Leads, Body 9x9mm, Pitch 0.5mm, IPC Low Density)
pins: 1 PE6 (INT.6/AIN.0) (io), 2 PE7 (INT.7/AIN.1/UVcon) (io), 3 UVcc (power), 4 D- (io), 5 D+ (io), 6 UGnd (power), 7 UCap (power), 8 VBus (in), 9 PE3 (IUID) (io), 10 PB0 (SS/PCINT0) (io), 11 PB1 (PCINT1/SCLK) (io), 12 PB2 (PDI/PCINT2/MOSI) (io), 13 PB3 (PDO/PCINT3/MISO) (io), 14 PB4 (PCINT4/OC.2A) (io), 15 PB5 (PCINT5/OC.1A) (io), 16 PB6 (PCINT6/OC.1B) (io), 17 PB7 (PCINT7/OC.0A/OC.1C) (io), 18 PE4 (INT4/TOSC1) (io), 19 PE5 (INT.5/TOSC2) (io), 20 ~{RESET} (in), 21 VCC (power), 22 GND (power), 23 XTAL2 (out), 24 XTAL1 (in), 25 PD0 (OC0B/SCL/INT0) (io), 26 PD1 (OC2B/SDA/INT1) (io), 27 PD2 (RXD1/INT2) (io), 28 PD3 (TXD1/INT3) (io), 29 PD4 (ICP1) (io), 30 PD5 (XCK1) (io), 31 PD6 (T1) (io), 32 PD7 (T0) (io), 33 PE0 (~{WR}) (io), 34 PE1 (~{RD}) (io), 35 PC0 (A8) (io), 36 PC1 (A9) (io), 37 PC2 (A10) (io), 38 PC3 (A11/T.3) (io), 39 PC4 (A12/OC.3C) (io), 40 PC5 (A13/OC.3B) (io), 41 PC6 (A14/OC.3A) (io), 42 PC7 (A15/IC.3/CLKO) (io), 43 PE2 (ALE/~{HWB}) (io), 44 PA7 (AD7) (io), 45 PA6 (AD6) (io), 46 PA5 (AD5) (io), 47 PA4 (AD4) (io), 48 PA3 (AD3) (io), 49 PA2 (AD2) (io), 50 PA1 (AD1) (io), 51 PA0 (AD0) (io), 52 VCC (power), 53 GND (power), 54 PF7 (ADC7/TDI) (io), 55 PF6 (ADC6/TDO) (io), 56 PF5 (ADC5/TMS) (io), 57 PF4 (ADC4/TCK) (io), 58 PF3 (ADC3) (io), 59 PF2 (ADC2) (io), 60 PF1 (ADC1) (io), 61 PF0 (ADC0) (io), 62 AREF (in), 63 GND (power), 64 AVCC (power), 65 DAP (power)

## AT90USB1287-AU
designator U?
8-bit AVR Microcontroller, 2.7-5.5V, 128KB Flash, 4KB EEPROM, 8KB SRAM, USB OTG Host, 64-pin TQFP, Industrial Grade (-40°C to 85°C)
footprint 64MD_N (Thin QFP, 64-Leads, Body 14x14mm, Pitch 0.8mm, IPC Medium Density)
footprint 64MD_L (Thin QFP, 64-Leads, Body 14x14mm, Pitch 0.8mm, IPC High Density)
footprint 64MD_M (Thin QFP, 64-Leads, Body 14x14mm, Pitch 0.8mm, IPC Low Density)
pins: 1 PE6 (INT.6/AIN.0) (io), 2 PE7 (INT.7/AIN.1/UVcon) (io), 3 UVcc (power), 4 D- (io), 5 D+ (io), 6 UGnd (power), 7 UCap (power), 8 VBus (in), 9 PE3 (IUID) (io), 10 PB0 (SS/PCINT0) (io), 11 PB1 (PCINT1/SCLK) (io), 12 PB2 (PDI/PCINT2/MOSI) (io), 13 PB3 (PDO/PCINT3/MISO) (io), 14 PB4 (PCINT4/OC.2A) (io), 15 PB5 (PCINT5/OC.1A) (io), 16 PB6 (PCINT6/OC.1B) (io), 17 PB7 (PCINT7/OC.0A/OC.1C) (io), 18 PE4 (INT4/TOSC1) (io), 19 PE5 (INT.5/TOSC2) (io), 20 ~{RESET} (in), 21 VCC (power), 22 GND (power), 23 XTAL2 (out), 24 XTAL1 (in), 25 PD0 (OC0B/SCL/INT0) (io), 26 PD1 (OC2B/SDA/INT1) (io), 27 PD2 (RXD1/INT2) (io), 28 PD3 (TXD1/INT3) (io), 29 PD4 (ICP1) (io), 30 PD5 (XCK1) (io), 31 PD6 (T1) (io), 32 PD7 (T0) (io), 33 PE0 (~{WR}) (io), 34 PE1 (~{RD}) (io), 35 PC0 (A8) (io), 36 PC1 (A9) (io), 37 PC2 (A10) (io), 38 PC3 (A11/T.3) (io), 39 PC4 (A12/OC.3C) (io), 40 PC5 (A13/OC.3B) (io), 41 PC6 (A14/OC.3A) (io), 42 PC7 (A15/IC.3/CLKO) (io), 43 PE2 (ALE/~{HWB}) (io), 44 PA7 (AD7) (io), 45 PA6 (AD6) (io), 46 PA5 (AD5) (io), 47 PA4 (AD4) (io), 48 PA3 (AD3) (io), 49 PA2 (AD2) (io), 50 PA1 (AD1) (io), 51 PA0 (AD0) (io), 52 VCC (power), 53 GND (power), 54 PF7 (ADC7/TDI) (io), 55 PF6 (ADC6/TDO) (io), 56 PF5 (ADC5/TMS) (io), 57 PF4 (ADC4/TCK) (io), 58 PF3 (ADC3) (io), 59 PF2 (ADC2) (io), 60 PF1 (ADC1) (io), 61 PF0 (ADC0) (io), 62 AREF (in), 63 GND (power), 64 AVCC (power)

## AT90USB1287-MU
designator U?
8-bit AVR Microcontroller, 2.7-5.5V, 128KB Flash, 4KB EEPROM, 8KB SRAM, USB OTG Host, 64-pin VQFN, Industrial Grade (-40°C to 85°C)
footprint 64PS_N (QFN, 64-Leads, Body 9x9mm, Pitch 0.5mm, IPC Medium Density)
footprint 64PS_L (QFN, 64-Leads, Body 9x9mm, Pitch 0.5mm, IPC High Density)
footprint 64PS_M (QFN, 64-Leads, Body 9x9mm, Pitch 0.5mm, IPC Low Density)
pins: 1 PE6 (INT.6/AIN.0) (io), 2 PE7 (INT.7/AIN.1/UVcon) (io), 3 UVcc (power), 4 D- (io), 5 D+ (io), 6 UGnd (power), 7 UCap (power), 8 VBus (in), 9 PE3 (IUID) (io), 10 PB0 (SS/PCINT0) (io), 11 PB1 (PCINT1/SCLK) (io), 12 PB2 (PDI/PCINT2/MOSI) (io), 13 PB3 (PDO/PCINT3/MISO) (io), 14 PB4 (PCINT4/OC.2A) (io), 15 PB5 (PCINT5/OC.1A) (io), 16 PB6 (PCINT6/OC.1B) (io), 17 PB7 (PCINT7/OC.0A/OC.1C) (io), 18 PE4 (INT4/TOSC1) (io), 19 PE5 (INT.5/TOSC2) (io), 20 ~{RESET} (in), 21 VCC (power), 22 GND (power), 23 XTAL2 (out), 24 XTAL1 (in), 25 PD0 (OC0B/SCL/INT0) (io), 26 PD1 (OC2B/SDA/INT1) (io), 27 PD2 (RXD1/INT2) (io), 28 PD3 (TXD1/INT3) (io), 29 PD4 (ICP1) (io), 30 PD5 (XCK1) (io), 31 PD6 (T1) (io), 32 PD7 (T0) (io), 33 PE0 (~{WR}) (io), 34 PE1 (~{RD}) (io), 35 PC0 (A8) (io), 36 PC1 (A9) (io), 37 PC2 (A10) (io), 38 PC3 (A11/T.3) (io), 39 PC4 (A12/OC.3C) (io), 40 PC5 (A13/OC.3B) (io), 41 PC6 (A14/OC.3A) (io), 42 PC7 (A15/IC.3/CLKO) (io), 43 PE2 (ALE/~{HWB}) (io), 44 PA7 (AD7) (io), 45 PA6 (AD6) (io), 46 PA5 (AD5) (io), 47 PA4 (AD4) (io), 48 PA3 (AD3) (io), 49 PA2 (AD2) (io), 50 PA1 (AD1) (io), 51 PA0 (AD0) (io), 52 VCC (power), 53 GND (power), 54 PF7 (ADC7/TDI) (io), 55 PF6 (ADC6/TDO) (io), 56 PF5 (ADC5/TMS) (io), 57 PF4 (ADC4/TCK) (io), 58 PF3 (ADC3) (io), 59 PF2 (ADC2) (io), 60 PF1 (ADC1) (io), 61 PF0 (ADC0) (io), 62 AREF (in), 63 GND (power), 64 AVCC (power), 65 DAP (power)

## ATmega8A-AU
designator U?
8-bit AVR Microcontroller, 8KB Flash, 512 Bytes EEPROM, 1KB SRAM, 32-pin TQFP, Industrial Grade (-40°C to 85°C)
footprint 32A_N (Thin QFP, 32-Leads, Body 7x7mm, Pitch 0.8mm, IPC Medium Density)
footprint 32A_L (Thin QFP, 32-Leads, Body 7x7mm, Pitch 0.8mm, IPC High Density)
footprint 32A_M (Thin QFP, 32-Leads, Body 7x7mm, Pitch 0.8mm, IPC Low Density)
pins: 1 PD3 (INT1) (io), 2 PD4 (XCK/T0) (io), 3 GND (power), 4 VCC (power), 5 GND (power), 6 VCC (power), 7 PB6 (XTAL1/TOSC1) (io), 8 PB7 (XTAL2/TOSC2) (io), 9 PD5 (T1) (io), 10 PD6 (AIN0) (io), 11 PD7 (AIN1) (io), 12 PB0 (ICP1) (io), 13 PB1 (OC1A) (io), 14 PB2 (~{SS}/OC1B) (io), 15 PB3 (MOSI/OC2) (io), 16 PB4 (MISO) (io), 17 PB5 (SCK) (io), 18 AVCC (power), 19 ADC6 (in), 20 AREF (power), 21 GND (power), 22 ADC7 (in), 23 PC0 (ADC0) (io), 24 PC1 (ADC1) (io), 25 PC2 (ADC2) (io), 26 PC3 (ADC3) (io), 27 PC4 (ADC4/SDA) (io), 28 PC5 (ADC5/SCL) (io), 29 PC6 (~{RESET}) (io), 30 PD0 (RXD) (io), 31 PD1 (TXD) (io), 32 PD2 (INT0) (io)

## ATmega8A-MU
designator U?
8-bit AVR Microcontroller, 8KB Flash, 512 Bytes EEPROM, 1KB SRAM, 33-pin MLF, Industrial Grade (-40°C to 85°C)
footprint 32M1-A_N (QFN, 32-Leads, Body 5x5mm, Pitch 0.5mm, IPC Medium Density)
footprint 32M1-A_L (QFN, 32-Leads, Body 5x5mm, Pitch 0.5mm, IPC High Density)
footprint 32M1-A_M (QFN, 32-Leads, Body 5x5mm, Pitch 0.5mm, IPC Low Density)
pins: 1 PD3 (INT1) (io), 2 PD4 (XCK/T0) (io), 3 GND (power), 4 VCC (power), 5 GND (power), 6 VCC (power), 7 PB6 (XTAL1/TOSC1) (io), 8 PB7 (XTAL2/TOSC2) (io), 9 PD5 (T1) (io), 10 PD6 (AIN0) (io), 11 PD7 (AIN1) (io), 12 PB0 (ICP1) (io), 13 PB1 (OC1A) (io), 14 PB2 (~{SS}/OC1B) (io), 15 PB3 (MOSI/OC2) (io), 16 PB4 (MISO) (io), 17 PB5 (SCK) (io), 18 AVCC (power), 19 ADC6 (in), 20 AREF (power), 21 GND (power), 22 ADC7 (in), 23 PC0 (ADC0) (io), 24 PC1 (ADC1) (io), 25 PC2 (ADC2) (io), 26 PC3 (ADC3) (io), 27 PC4 (ADC4/SDA) (io), 28 PC5 (ADC5/SCL) (io), 29 PC6 (~{RESET}) (io), 30 PD0 (RXD) (io), 31 PD1 (TXD) (io), 32 PD2 (INT0) (io), 33 DAP (power)

## ATmega8A-PU
designator U?
8-bit AVR Microcontroller, 8KB Flash, 512 Bytes EEPROM, 1KB SRAM, 28-pin PDIP, Industrial Grade (-40°C to 85°C)
footprint 28P3 (DIP, 28-Leads, Row Spacing 7.62mm, Pitch 2.54mm, Body 34.67x7.3mm)
pins: 1 PC6 (~{RESET}) (io), 2 PD0 (RXD) (io), 3 PD1 (TXD) (io), 4 PD2 (INT0) (io), 5 PD3 (INT1) (io), 6 PD4 (XCK/T0) (io), 7 VCC (power), 8 GND (power), 9 PB6 (XTAL1/TOSC1) (io), 10 PB7 (XTAL2/TOSC2) (io), 11 PD5 (T1) (io), 12 PD6 (AIN0) (io), 13 PD7 (AIN1) (io), 14 PB0 (ICP) (io), 15 PB1 (OC1A) (io), 16 PB2 (~{SS}/OC1B) (io), 17 PB3 (MOSI/OC2) (io), 18 PB4 (MISO) (io), 19 PB5 (SCK) (io), 20 AVCC (power), 21 AREF, 22 GND (power), 23 PC0 (ADC0) (io), 24 PC1 (ADC1) (io), 25 PC2 (ADC2) (io), 26 PC3 (ADC3) (io), 27 PC4 (ADC4/SDA) (io), 28 PC5 (ADC5/SCL) (io)

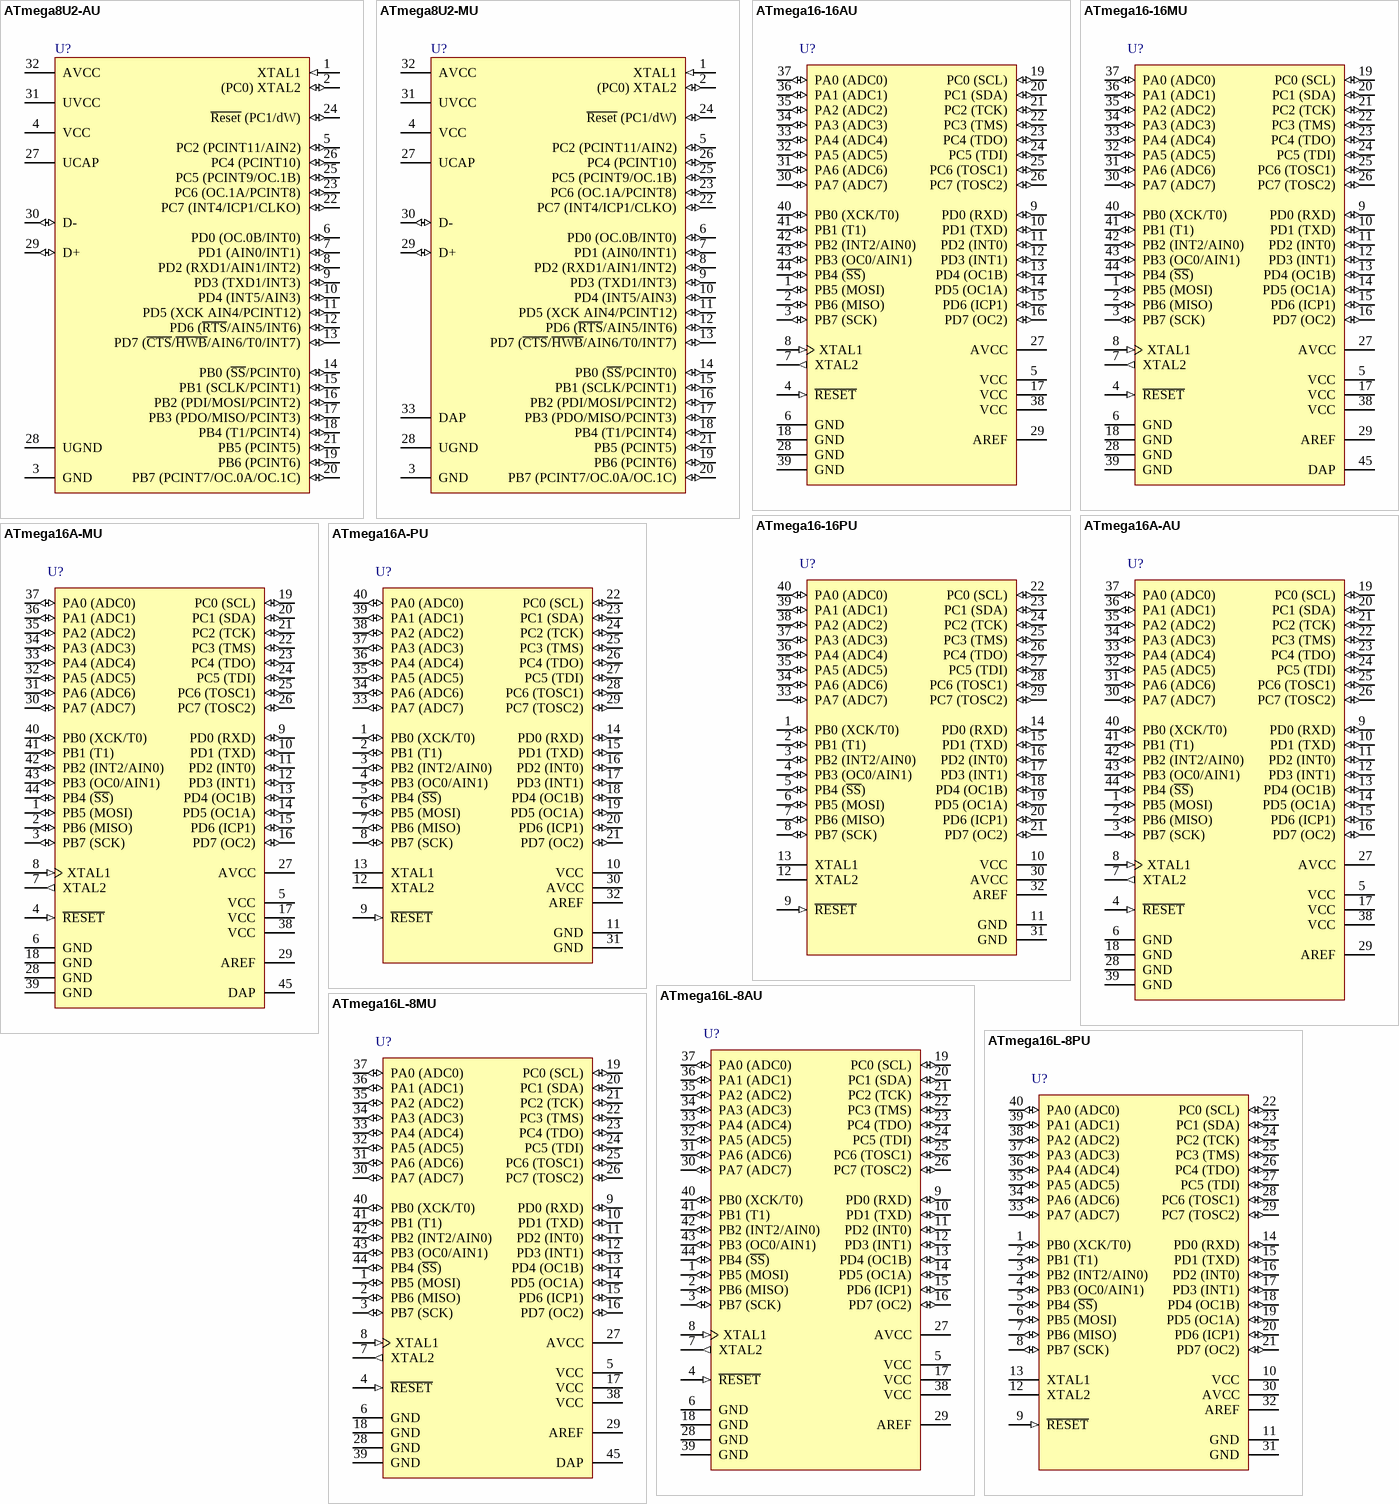
[diagram p4: symbols ATmega8U2-AU to ATmega16L-8PU]

## ATmega8U2-AU
designator U?
8-bit AVR Microcontroller, 2.7-5.5V, 8KB Flash, 512 Bytes EEPROM, 512 Bytes SRAM, 32-pin TQFP, Industrial Grade (-40°C to 85°C)
footprint 32A_N (Thin QFP, 32-Leads, Body 7x7mm, Pitch 0.8mm, IPC Medium Density)
footprint 32A_L (Thin QFP, 32-Leads, Body 7x7mm, Pitch 0.8mm, IPC High Density)
footprint 32A_M (Thin QFP, 32-Leads, Body 7x7mm, Pitch 0.8mm, IPC Low Density)
pins: 1 XTAL1 (in), 2 (PC0) XTAL2 (io), 3 GND (power), 4 VCC (power), 5 PC2 (PCINT11/AIN2) (io), 6 PD0 (OC.0B/INT0) (io), 7 PD1 (AIN0/INT1) (io), 8 PD2 (RXD1/AIN1/INT2) (io), 9 PD3 (TXD1/INT3) (io), 10 PD4 (INT5/AIN3) (io), 11 PD5 (XCK AIN4/PCINT12) (io), 12 PD6 (~{RTS}/AIN5/INT6) (io), 13 PD7 (~{CTS}/~{HWB}/AIN6/T0/INT7) (io), 14 PB0 (~{SS}/PCINT0) (io), 15 PB1 (SCLK/PCINT1) (io), 16 PB2 (PDI/MOSI/PCINT2) (io), 17 PB3 (PDO/MISO/PCINT3) (io), 18 PB4 (T1/PCINT4) (io), 19 PB6 (PCINT6) (io), 20 PB7 (PCINT7/OC.0A/OC.1C) (io), 21 PB5 (PCINT5) (io), 22 PC7 (INT4/ICP1/CLKO) (io), 23 PC6 (OC.1A/PCINT8) (io), 24 ~{Reset} (PC1/dW) (io), 25 PC5 (PCINT9/OC.1B) (io), 26 PC4 (PCINT10) (io), 27 UCAP (power), 28 UGND (power), 29 D+ (io), 30 D- (io), 31 UVCC (power), 32 AVCC (power)

## ATmega8U2-MU
designator U?
8-bit AVR Microcontroller, 2.7-5.5V, 8KB Flash, 512 Bytes EEPROM, 512 Bytes SRAM, 32-pin VQFN, Industrial Grade (-40°C to 85°C)
footprint 32PG_N (QFN, 32-Leads, Body 5x5mm, Pitch 0.5mm, IPC Medium Density)
footprint 32PG_L (QFN, 32-Leads, Body 5x5mm, Pitch 0.5mm, IPC High Density)
footprint 32PG_M (QFN, 32-Leads, Body 5x5mm, Pitch 0.5mm, IPC Low Density)
pins: 1 XTAL1 (in), 2 (PC0) XTAL2 (io), 3 GND (power), 4 VCC (power), 5 PC2 (PCINT11/AIN2) (io), 6 PD0 (OC.0B/INT0) (io), 7 PD1 (AIN0/INT1) (io), 8 PD2 (RXD1/AIN1/INT2) (io), 9 PD3 (TXD1/INT3) (io), 10 PD4 (INT5/AIN3) (io), 11 PD5 (XCK AIN4/PCINT12) (io), 12 PD6 (~{RTS}/AIN5/INT6) (io), 13 PD7 (~{CTS}/~{HWB}/AIN6/T0/INT7) (io), 14 PB0 (~{SS}/PCINT0) (io), 15 PB1 (SCLK/PCINT1) (io), 16 PB2 (PDI/MOSI/PCINT2) (io), 17 PB3 (PDO/MISO/PCINT3) (io), 18 PB4 (T1/PCINT4) (io), 19 PB6 (PCINT6) (io), 20 PB7 (PCINT7/OC.0A/OC.1C) (io), 21 PB5 (PCINT5) (io), 22 PC7 (INT4/ICP1/CLKO) (io), 23 PC6 (OC.1A/PCINT8) (io), 24 ~{Reset} (PC1/dW) (io), 25 PC5 (PCINT9/OC.1B) (io), 26 PC4 (PCINT10) (io), 27 UCAP (power), 28 UGND (power), 29 D+ (io), 30 D- (io), 31 UVCC (power), 32 AVCC (power), 33 DAP (power)